# Altium schematic symbol library IC.SCHLIB: 145 symbols
Pins are listed as number, name and electrical type; pins without a type are passive.

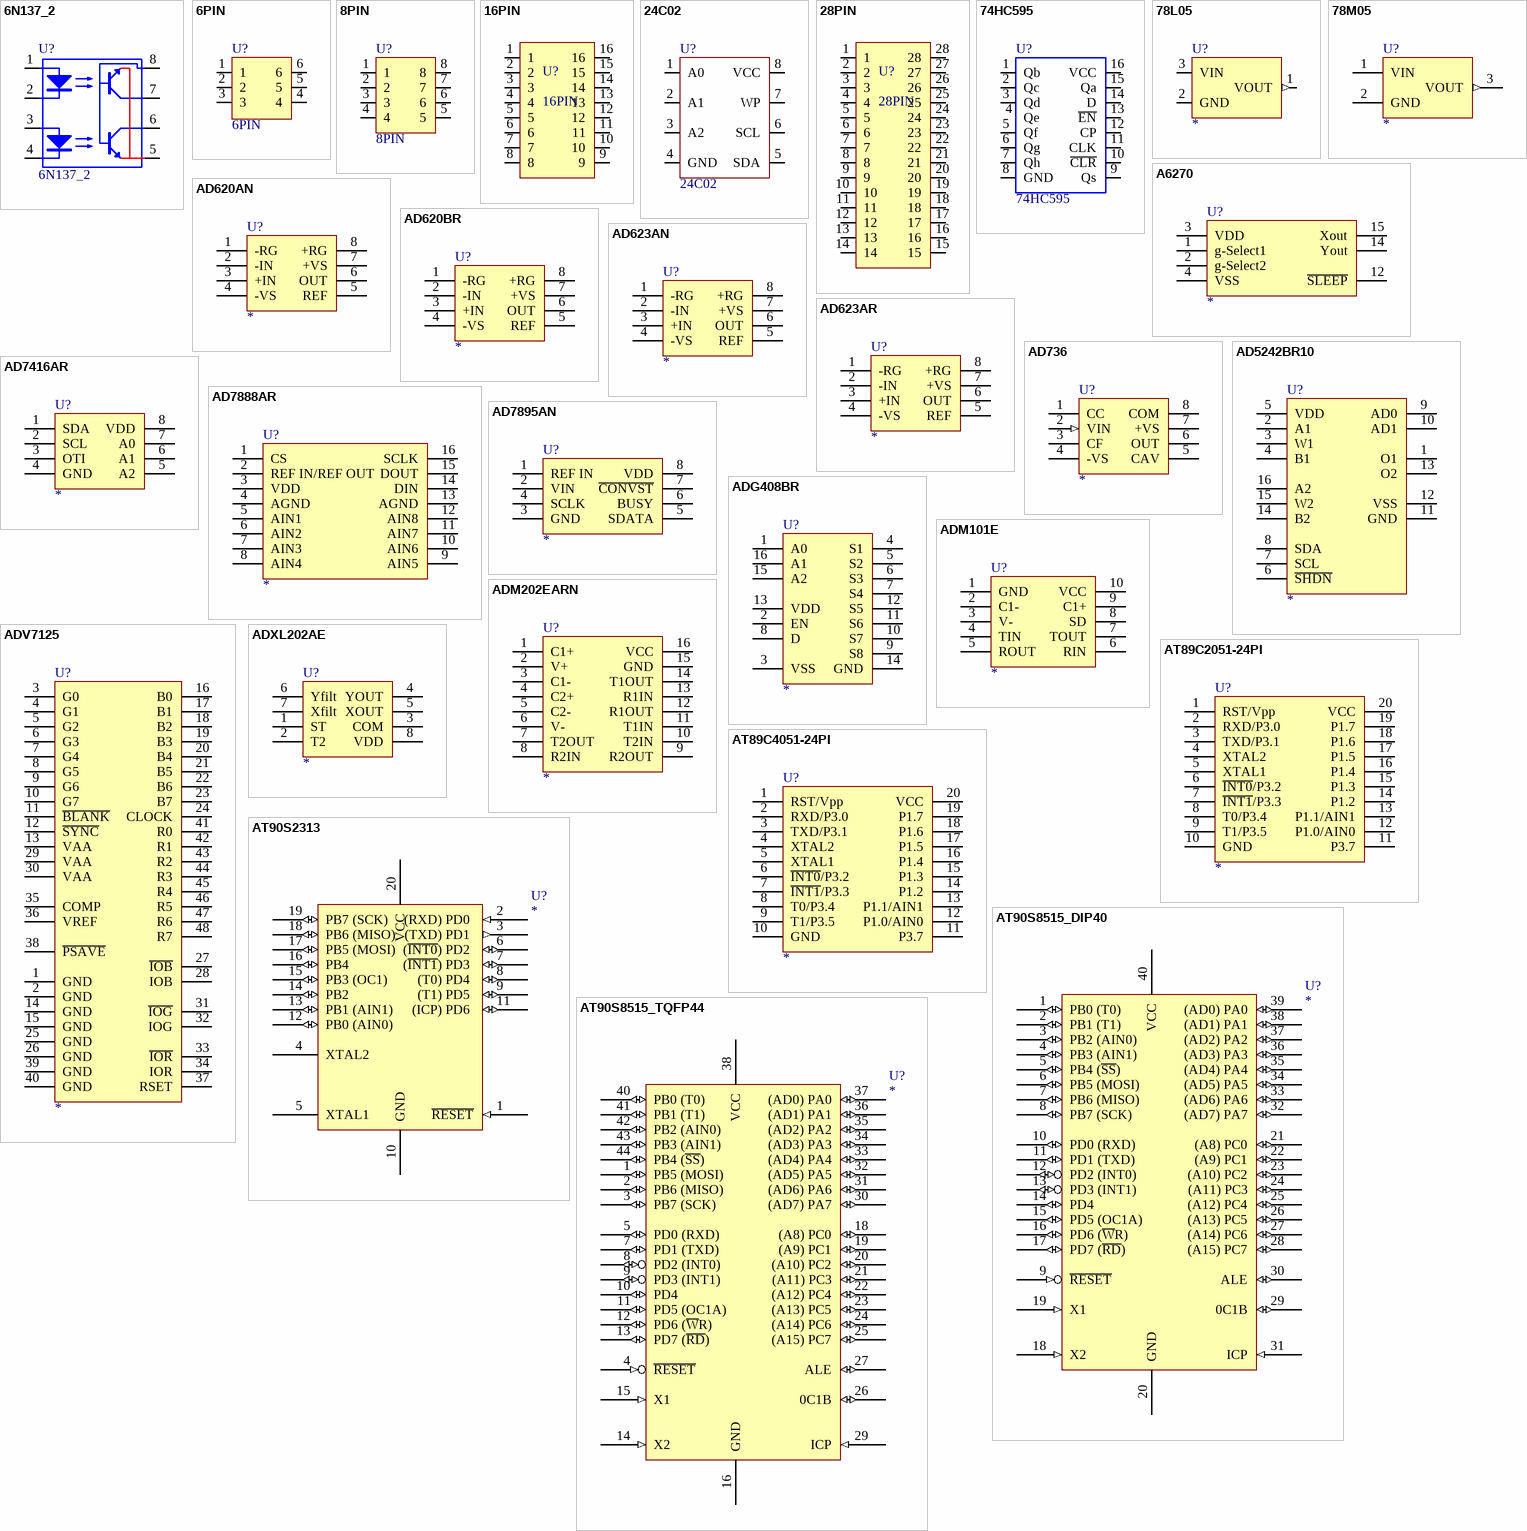
[diagram p0: symbols 6N137_2 to AT90S8515_TQFP44]

## 6N137_2
designator U?
Opto Isolator
footprint 6N137
pins: 1 LED Anode, 2 LED Cathode, 3 -, 4 +, 5 GND, 6 V02, 7 V01, 8 VCC

## 6PIN
designator U?
pins: 1, 2, 3, 4, 5, 6

## 8PIN
designator U?
pins: 1, 2, 3, 4, 5, 6, 7, 8

## 16PIN
designator U?
footprint SSOP-16
footprint SO-16N
footprint DIP-16N
pins: 1, 2, 3, 4, 5, 6, 7, 8, 9, 10, 11, 12, 13, 14, 15, 16

## 24C02
designator U?
footprint SO-8
pins: 1 A0, 2 A1, 3 A2, 4 GND, 5 SDA, 6 SCL, 7 WP, 8 VCC

## 28PIN
designator U?
footprint DIP-28W
footprint PDIUSBD12
footprint SO-28N (Footprint not found)
pins: 1, 2, 3, 4, 5, 6, 7, 8, 9, 10, 11, 12, 13, 14, 15, 16, 17, 18, 19, 20, 21, 22, 23, 24, 25, 26, 27, 28

## 74HC595
designator U?
footprint SO-16
pins: 1 Qb, 2 Qc, 3 Qd, 4 Qe, 5 Qf, 6 Qg, 7 Qh, 8 GND, 9 Qs, 10 ~{CLR}, 11 CLK, 12 CP, 13 ~{EN}, 14 D, 15 Qa, 16 VCC

## 78L05
designator U?
CI-78L05
footprint TO-92
pins: 1 VOUT (out), 2 GND (power), 3 VIN (power)

## 78M05
designator U?
CI-78M05
footprint DPAK
pins: 1 VIN (power), 2 GND (power), 3 VOUT (out)

## A6270
designator U?
pins: 1 g-Select1, 2 g-Select2, 3 VDD, 4 VSS, 12 ~{SLEEP}, 14 Yout, 15 Xout

## AD620AN
designator U?
CI-AD620AN
footprint DIP-8N
pins: 1 -RG, 2 -IN, 3 +IN, 4 -VS, 5 REF, 6 OUT, 7 +VS, 8 +RG

## AD620BR
designator U?
CI-AD620BR
footprint SO-8N
pins: 1 -RG, 2 -IN, 3 +IN, 4 -VS, 5 REF, 6 OUT, 7 +VS, 8 +RG

## AD623AN
designator U?
CI-AD623AN
footprint DIP-8N
pins: 1 -RG, 2 -IN, 3 +IN, 4 -VS, 5 REF, 6 OUT, 7 +VS, 8 +RG

## AD623AR
designator U?
CI-AD623AR
footprint SO-8N
pins: 1 -RG, 2 -IN, 3 +IN, 4 -VS, 5 REF, 6 OUT, 7 +VS, 8 +RG

## AD736
designator U?
CI-AD736
footprint SO-8N
pins: 1 CC, 2 VIN (in), 3 CF, 4 -VS (power), 5 CAV, 6 OUT, 7 +VS (power), 8 COM

## AD5242BR10
designator U?
CI-AD5242BR10
footprint SO-16N
pins: 1 O1, 2 A1, 3 W1, 4 B1, 5 VDD (power), 6 ~{SHDN}, 7 SCL, 8 SDA, 9 AD0, 10 AD1, 11 GND (power), 12 VSS, 13 O2, 14 B2, 15 W2, 16 A2

## AD7416AR
designator U?
CI-AD7416AR
footprint SO-8N
pins: 1 SDA, 2 SCL, 3 OTI, 4 GND (power), 5 A2, 6 A1, 7 A0, 8 VDD (power)

## AD7888AR
designator U?
CI-AD7888AR
footprint SO-16N
pins: 1 CS, 2 REF IN/REF OUT, 3 VDD (power), 4 AGND, 5 AIN1, 6 AIN2, 7 AIN3, 8 AIN4, 9 AIN5, 10 AIN6, 11 AIN7, 12 AIN8, 13 AGND, 14 DIN, 15 DOUT, 16 SCLK

## AD7895AN
designator U?
CI-AD7895AN
footprint DIP-8N
pins: 1 REF IN, 2 VIN, 3 GND (power), 4 SCLK, 5 SDATA, 6 BUSY, 7 ~{CONVST}, 8 VDD (power)

## ADG408BR
designator U?
CI-ADG408BR
footprint SO-16N
pins: 1 A0, 2 EN, 3 VSS (power), 4 S1, 5 S2, 6 S3, 7 S4, 8 D, 9 S8, 10 S7, 11 S6, 12 S5, 13 VDD (power), 14 GND, 15 A2, 16 A1

## ADM101E
designator U?
CI-ADM101E
footprint RM-10
pins: 1 GND (power), 2 C1-, 3 V-, 4 TIN, 5 ROUT, 6 RIN, 7 TOUT, 8 SD, 9 C1+, 10 VCC (power)

## ADM202EARN
designator U?
CI-ADM202EARN
footprint SO-16N
pins: 1 C1+, 2 V+, 3 C1-, 4 C2+, 5 C2-, 6 V-, 7 T2OUT, 8 R2IN, 9 R2OUT, 10 T2IN, 11 T1IN, 12 R1OUT, 13 R1IN, 14 T1OUT, 15 GND (power), 16 VCC (power)

## ADV7125
designator U?
pins: 1 GND, 2 GND, 3 G0, 4 G1, 5 G2, 6 G3, 7 G4, 8 G5, 9 G6, 10 G7, 11 ~{BLANK}, 12 ~{SYNC}, 13 VAA, 14 GND, 15 GND, 16 B0, 17 B1, 18 B2, 19 B3, 20 B4, 21 B5, 22 B6, 23 B7, 24 CLOCK, 25 GND, 26 GND, 27 ~{IOB}, 28 IOB, 29 VAA, 30 VAA, 31 ~{IOG}, 32 IOG, 33 ~{IOR}, 34 IOR, 35 COMP, 36 VREF, 37 RSET, 38 ~{PSAVE}, 39 GND, 40 GND, 41 R0, 42 R1, 43 R2, 44 R3, 45 R4, 46 R5, 47 R6, 48 R7

## ADXL202AE
designator U?
CI-ADXL202AE
footprint LCC-8
pins: 1 ST, 2 T2, 3 COM, 4 YOUT, 5 XOUT, 6 Yfilt (power), 7 Xfilt (power), 8 VDD (power)

## AT89C2051-24PI
designator U?
CI-AT89C2051-24PI
footprint DIP-20N
pins: 1 RST/Vpp, 2 RXD/P3.0, 3 TXD/P3.1, 4 XTAL2, 5 XTAL1, 6 ~{INT0}/P3.2, 7 ~{INT1}/P3.3, 8 T0/P3.4, 9 T1/P3.5, 10 GND, 11 P3.7, 12 P1.0/AIN0, 13 P1.1/AIN1, 14 P1.2, 15 P1.3, 16 P1.4, 17 P1.5, 18 P1.6, 19 P1.7, 20 VCC

## AT89C4051-24PI
designator U?
CI-AT89C4051-24PI
footprint DIP-20N
pins: 1 RST/Vpp, 2 RXD/P3.0, 3 TXD/P3.1, 4 XTAL2, 5 XTAL1, 6 ~{INT0}/P3.2, 7 ~{INT1}/P3.3, 8 T0/P3.4, 9 T1/P3.5, 10 GND (power), 11 P3.7, 12 P1.0/AIN0, 13 P1.1/AIN1, 14 P1.2, 15 P1.3, 16 P1.4, 17 P1.5, 18 P1.6, 19 P1.7, 20 VCC (power)

## AT90S2313
designator U?
Atmel Microcontroller - Library created by carel..  <www.mpfreezone.com>
footprint SO-20
footprint DIP-20
pins: 1 ~{RESET} (in), 2 (RXD) PD0  (in), 3 (TXD) PD1  (out), 4 XTAL2, 5 XTAL1, 6 (~{INT0}) PD2  (io), 7 (~{INT1}) PD3  (io), 8 (T0) PD4  (io), 9 (T1) PD5  (io), 10 GND (power), 11 (ICP) PD6  (io), 12 PB0 (AIN0)  (io), 13 PB1 (AIN1)  (io), 14 PB2 (io), 15 PB3 (OC1)  (io), 16 PB4 (io), 17 PB5 (MOSI)  (io), 18 PB6 (MISO)  (io), 19 PB7 (SCK) (io), 20 VCC (power)

## AT90S8515_DIP40
designator U?
Atmel Microcontroller - Library created by carel..  <www.mpfreezone.com>
footprint DIP-40
pins: 1 PB0 (T0) (io), 2 PB1 (T1) (io), 3 PB2 (AIN0) (io), 4 PB3 (AIN1) (io), 5 PB4 (~{SS}) (io), 6 PB5 (MOSI) (io), 7 PB6 (MISO) (io), 8 PB7 (SCK) (io), 9 ~{RESET} (in), 10 PD0 (RXD) (io), 11 PD1 (TXD) (io), 12 PD2 (INT0) (io), 13 PD3 (INT1) (io), 14 PD4 (io), 15 PD5 (OC1A) (io), 16 PD6 (~{W}R) (io), 17 PD7 (~{RD}) (io), 18 X2 (in), 19 X1 (in), 20 GND (power), 21 (A8) PC0 (io), 22 (A9) PC1 (io), 23 (A10) PC2 (io), 24 (A11) PC3 (io), 25 (A12) PC4 (io), 26 (A13) PC5 (io), 27 (A14) PC6 (io), 28 (A15) PC7 (io), 29 0C1B (io), 30 ALE (io), 31 ICP (in), 32 (AD7) PA7 (io), 33 (AD6) PA6 (io), 34 (AD5) PA5 (io), 35 (AD4) PA4 (io), 36 (AD3) PA3 (io), 37 (AD2) PA2 (io), 38 (AD1) PA1 (io), 39 (AD0) PA0 (io), 40 VCC (power)

## AT90S8515_TQFP44
designator U?
Atmel Microcontroller - Library created by carel..  <www.mpfreezone.com>
footprint TQFP-44
pins: 1 PB5 (MOSI) (io), 2 PB6 (MISO) (io), 3 PB7 (SCK) (io), 4 ~{RESET} (in), 5 PD0 (RXD) (io), 7 PD1 (TXD) (io), 8 PD2 (INT0) (io), 9 PD3 (INT1) (io), 10 PD4 (io), 11 PD5 (OC1A) (io), 12 PD6 (~{W}R) (io), 13 PD7 (~{RD}) (io), 14 X2 (in), 15 X1 (in), 16 GND (power), 18 (A8) PC0 (io), 19 (A9) PC1 (io), 20 (A10) PC2 (io), 21 (A11) PC3 (io), 22 (A12) PC4 (io), 23 (A13) PC5 (io), 24 (A14) PC6 (io), 25 (A15) PC7 (io), 26 0C1B (io), 27 ALE (io), 29 ICP (in), 30 (AD7) PA7 (io), 31 (AD6) PA6 (io), 32 (AD5) PA5 (io), 33 (AD4) PA4 (io), 34 (AD3) PA3 (io), 35 (AD2) PA2 (io), 36 (AD1) PA1 (io), 37 (AD0) PA0 (io), 38 VCC (power), 40 PB0 (T0) (io), 41 PB1 (T1) (io), 42 PB2 (AIN0) (io), 43 PB3 (AIN1) (io), 44 PB4 (~{SS}) (io)

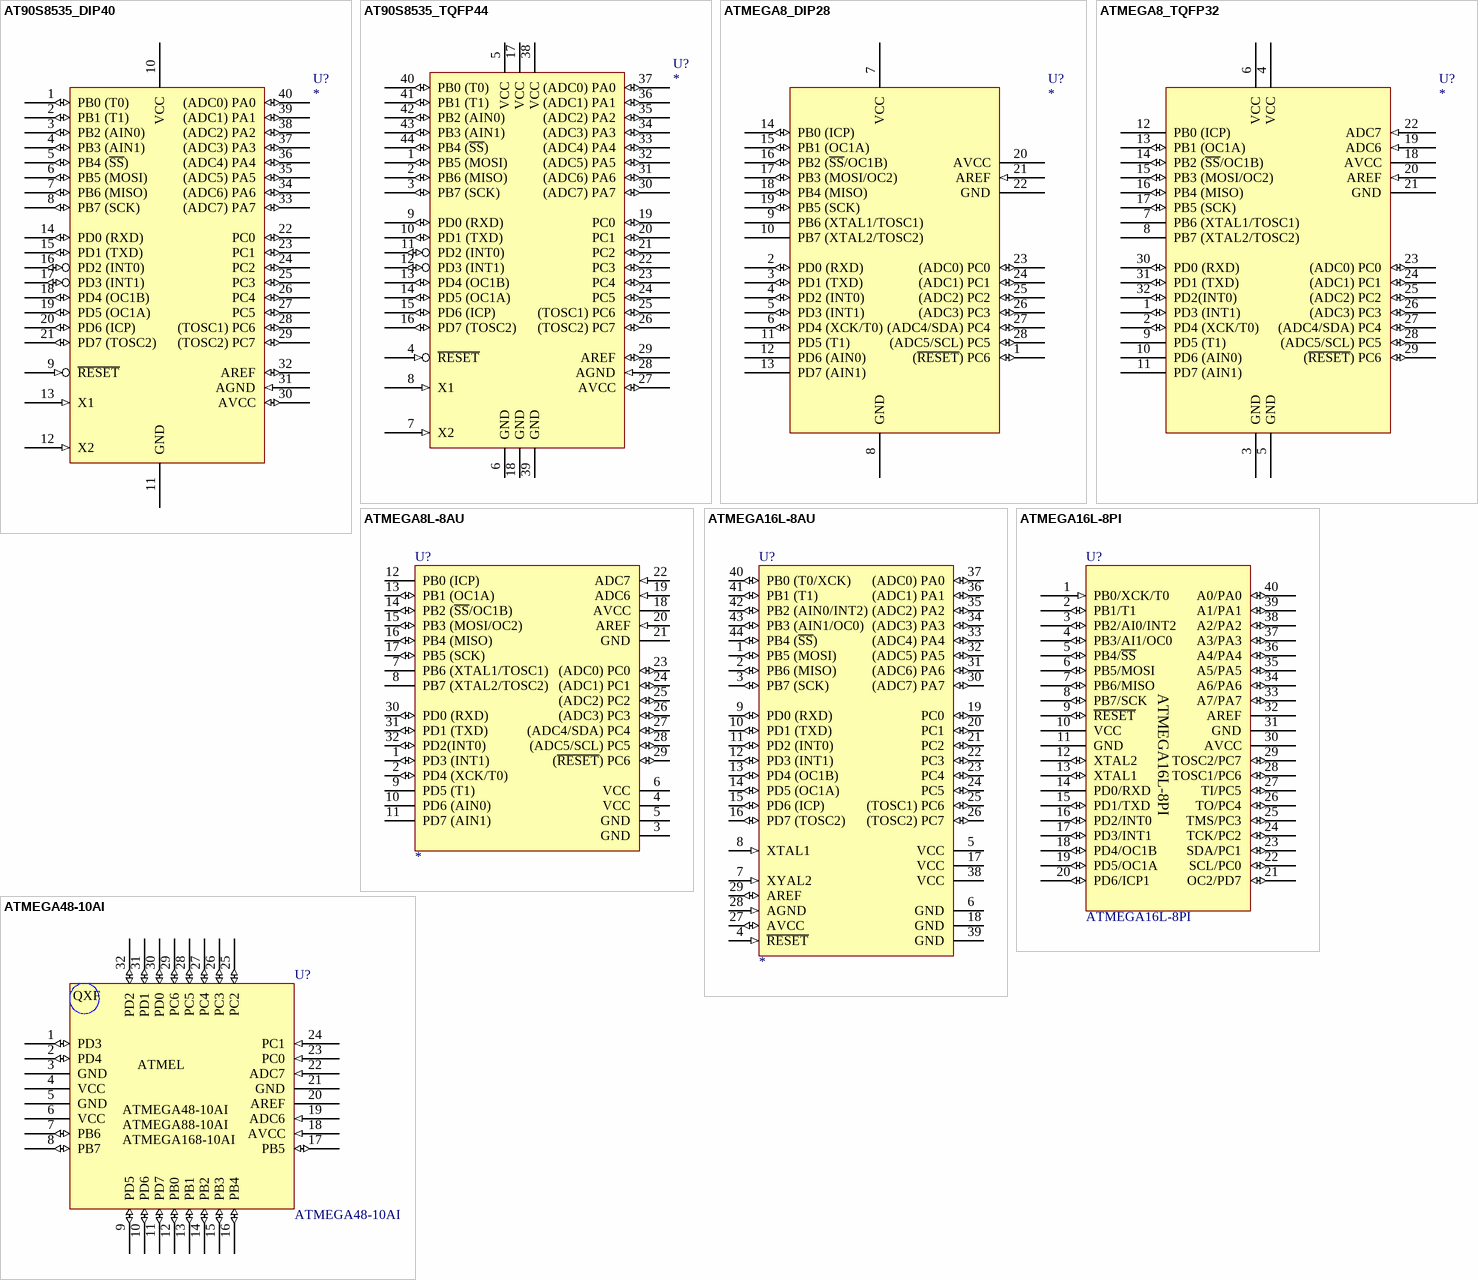
[diagram p1: symbols AT90S8535_DIP40 to ATMEGA48-10AI]

## AT90S8535_DIP40
designator U?
Atmel Microcontroller - Library created by carel..  <www.mpfreezone.com>
footprint DIP-40
pins: 1 PB0 (T0) (io), 2 PB1 (T1) (io), 3 PB2 (AIN0) (io), 4 PB3 (AIN1) (io), 5 PB4 (~{SS}) (io), 6 PB5 (MOSI) (io), 7 PB6 (MISO) (io), 8 PB7 (SCK) (io), 9 ~{RESET} (in), 10 VCC (power), 11 GND (power), 12 X2 (in), 13 X1 (in), 14 PD0 (RXD) (io), 15 PD1 (TXD) (io), 16 PD2 (INT0) (io), 17 PD3 (INT1) (io), 18 PD4 (OC1B) (io), 19 PD5 (OC1A) (io), 20 PD6 (ICP) (io), 21 PD7 (TOSC2) (io), 22 PC0 (io), 23 PC1 (io), 24 PC2 (io), 25 PC3 (io), 26 PC4 (io), 27 PC5 (io), 28 (TOSC1) PC6 (io), 29 (TOSC2) PC7 (io), 30 AVCC (io), 31 AGND (in), 32 AREF (io), 33 (ADC7) PA7 (io), 34 (ADC6) PA6 (io), 35 (ADC5) PA5 (io), 36 (ADC4) PA4 (io), 37 (ADC3) PA3 (io), 38 (ADC2) PA2 (io), 39 (ADC1) PA1 (io), 40 (ADC0) PA0 (io)

## AT90S8535_TQFP44
designator U?
Atmel Microcontroller - Library created by carel..  <www.mpfreezone.com>
footprint TQFP-44
pins: 1 PB5 (MOSI) (io), 2 PB6 (MISO) (io), 3 PB7 (SCK) (io), 4 ~{RESET} (in), 5 VCC, 6 GND, 7 X2 (in), 8 X1 (in), 9 PD0 (RXD) (io), 10 PD1 (TXD) (io), 11 PD2 (INT0) (io), 12 PD3 (INT1) (io), 13 PD4 (OC1B) (io), 14 PD5 (OC1A) (io), 15 PD6 (ICP) (io), 16 PD7 (TOSC2) (io), 17 VCC, 18 GND, 19 PC0 (io), 20 PC1 (io), 21 PC2 (io), 22 PC3 (io), 23 PC4 (io), 24 PC5 (io), 25 (TOSC1) PC6 (io), 26 (TOSC2) PC7 (io), 27 AVCC (io), 28 AGND (in), 29 AREF (io), 30 (ADC7) PA7 (io), 31 (ADC6) PA6 (io), 32 (ADC5) PA5 (io), 33 (ADC4) PA4 (io), 34 (ADC3) PA3 (io), 35 (ADC2) PA2 (io), 36 (ADC1) PA1 (io), 37 (ADC0) PA0 (io), 38 VCC (power), 39 GND (power), 40 PB0 (T0) (io), 41 PB1 (T1) (io), 42 PB2 (AIN0) (io), 43 PB3 (AIN1) (io), 44 PB4 (~{SS}) (io)

## ATMEGA8_DIP28
designator U?
Atmel Microcontroller - Library created by carel..  <www.mpfreezone.com>
footprint DIP-28
pins: 1 (~{RESET}) PC6 (io), 2 PD0 (RXD) (io), 3 PD1 (TXD) (io), 4 PD2 (INT0) (io), 5 PD3 (INT1) (io), 6 PD4 (XCK/T0) (io), 7 VCC, 8 GND, 9 PB6 (XTAL1/TOSC1), 10 PB7 (XTAL2/TOSC2), 11 PD5 (T1), 12 PD6 (AIN0), 13 PD7 (AIN1), 14 PB0 (ICP) (io), 15 PB1 (OC1A) (io), 16 PB2 (~{SS}/OC1B) (io), 17 PB3 (MOSI/OC2) (io), 18 PB4 (MISO) (io), 19 PB5 (SCK) (io), 20 AVCC, 21 AREF (in), 22 GND, 23 (ADC0) PC0 (io), 24 (ADC1) PC1 (io), 25 (ADC2) PC2 (io), 26 (ADC3) PC3 (io), 27 (ADC4/SDA) PC4 (io), 28 (ADC5/SCL) PC5 (io)

## ATMEGA8_TQFP32
designator U?
Atmel Microcontroller - Library created by carel..  <www.mpfreezone.com>
footprint DIP-28
pins: 1 PD3 (INT1) (io), 2 PD4 (XCK/T0) (io), 3 GND, 4 VCC (power), 5 GND (power), 6 VCC, 7 PB6 (XTAL1/TOSC1), 8 PB7 (XTAL2/TOSC2), 9 PD5 (T1), 10 PD6 (AIN0), 11 PD7 (AIN1), 12 PB0 (ICP), 13 PB1 (OC1A) (io), 14 PB2 (~{SS}/OC1B) (io), 15 PB3 (MOSI/OC2) (io), 16 PB4 (MISO) (io), 17 PB5 (SCK) (io), 18 AVCC, 19 ADC6 (in), 20 AREF (in), 21 GND, 22 ADC7 (in), 23 (ADC0) PC0 (io), 24 (ADC1) PC1 (io), 25 (ADC2) PC2 (io), 26 (ADC3) PC3 (io), 27 (ADC4/SDA) PC4 (io), 28 (ADC5/SCL) PC5 (io), 29 (~{RESET}) PC6 (io), 30 PD0 (RXD) (io), 31 PD1 (TXD) (io), 32 PD2(INT0) (io)

## ATMEGA8L-8AU
designator U?
CI-ATMEGA8L-8AU
footprint TQFP-32
pins: 1 PD3 (INT1) (io), 2 PD4 (XCK/T0) (io), 3 GND (power), 4 VCC (power), 5 GND (power), 6 VCC (power), 7 PB6 (XTAL1/TOSC1), 8 PB7 (XTAL2/TOSC2), 9 PD5 (T1), 10 PD6 (AIN0), 11 PD7 (AIN1), 12 PB0 (ICP), 13 PB1 (OC1A) (io), 14 PB2 (~{SS}/OC1B) (io), 15 PB3 (MOSI/OC2) (io), 16 PB4 (MISO) (io), 17 PB5 (SCK) (io), 18 AVCC, 19 ADC6 (in), 20 AREF (in), 21 GND, 22 ADC7 (in), 23 (ADC0) PC0 (io), 24 (ADC1) PC1 (io), 25 (ADC2) PC2 (io), 26 (ADC3) PC3 (io), 27 (ADC4/SDA) PC4 (io), 28 (ADC5/SCL) PC5 (io), 29 (~{RESET}) PC6 (io), 30 PD0 (RXD) (io), 31 PD1 (TXD) (io), 32 PD2(INT0) (io)

## ATMEGA16L-8AU
designator U?
CI-ATMEGA16L-8AU
footprint TQFP-44
pins: 1 PB5 (MOSI) (io), 2 PB6 (MISO) (io), 3 PB7 (SCK) (io), 4 ~{RESET} (in), 5 VCC (power), 6 GND (power), 7 XYAL2 (in), 8 XTAL1 (in), 9 PD0 (RXD) (io), 10 PD1 (TXD) (io), 11 PD2 (INT0) (io), 12 PD3 (INT1) (io), 13 PD4 (OC1B) (io), 14 PD5 (OC1A) (io), 15 PD6 (ICP) (io), 16 PD7 (TOSC2) (io), 17 VCC (power), 18 GND (power), 19 PC0 (io), 20 PC1 (io), 21 PC2 (io), 22 PC3 (io), 23 PC4 (io), 24 PC5 (io), 25 (TOSC1) PC6 (io), 26 (TOSC2) PC7 (io), 27 AVCC (io), 28 AGND (in), 29 AREF (io), 30 (ADC7) PA7 (io), 31 (ADC6) PA6 (io), 32 (ADC5) PA5 (io), 33 (ADC4) PA4 (io), 34 (ADC3) PA3 (io), 35 (ADC2) PA2 (io), 36 (ADC1) PA1 (io), 37 (ADC0) PA0 (io), 38 VCC (power), 39 GND (power), 40 PB0 (T0/XCK) (io), 41 PB1 (T1) (io), 42 PB2 (AIN0/INT2) (io), 43 PB3 (AIN1/OC0) (io), 44 PB4 (~{SS}) (io)

## ATMEGA16L-8PI
designator U?
footprint DIP-40
pins: 1 PB0/XCK/T0 (in), 2 PB1/T1 (io), 3 PB2/AI0/INT2 (io), 4 PB3/AI1/OC0 (io), 5 PB4/~{SS} (io), 6 PB5/MOSI (io), 7 PB6/MISO (io), 8 PB7/SCK (io), 9 ~{RESET} (io), 10 VCC (power), 11 GND (power), 12 XTAL2 (io), 13 XTAL1 (io), 14 PD0/RXD (power), 15 PD1/TXD (io), 16 PD2/INT0 (io), 17 PD3/INT1 (io), 18 PD4/OC1B (io), 19 PD5/OC1A (io), 20 PD6/ICP1 (io), 21 OC2/PD7 (io), 22 SCL/PC0 (io), 23 SDA/PC1 (io), 24 TCK/PC2 (io), 25 TMS/PC3 (io), 26 TO/PC4 (io), 27 TI/PC5 (io), 28 TOSC1/PC6 (io), 29 TOSC2/PC7 (io), 30 AVCC (power), 31 GND (power), 32 AREF (power), 33 A7/PA7 (io), 34 A6/PA6 (io), 35 A5/PA5 (io), 36 A4/PA4 (io), 37 A3/PA3 (io), 38 A2/PA2 (io), 39 A1/PA1 (io), 40 A0/PA0 (io)

## ATMEGA48-10AI
designator U?
footprint TQFP-32
pins: 1 PD3 (io), 2 PD4 (io), 3 GND (power), 4 VCC (power), 5 GND (power), 6 VCC (power), 7 PB6 (io), 8 PB7 (io), 9 PD5 (io), 10 PD6 (io), 11 PD7 (io), 12 PB0 (io), 13 PB1 (io), 14 PB2 (io), 15 PB3 (io), 16 PB4 (io), 17 PB5 (io), 18 AVCC (in), 19 ADC6 (in), 20 AREF, 21 GND (power), 22 ADC7 (in), 23 PC0 (in), 24 PC1 (in), 25 PC2 (io), 26 PC3 (io), 27 PC4 (io), 28 PC5 (io), 29 PC6 (io), 30 PD0 (io), 31 PD1 (io), 32 PD2 (io)
text: QXF; ATMEL; ATMEGA88-10AI; ATMEGA168-10AI

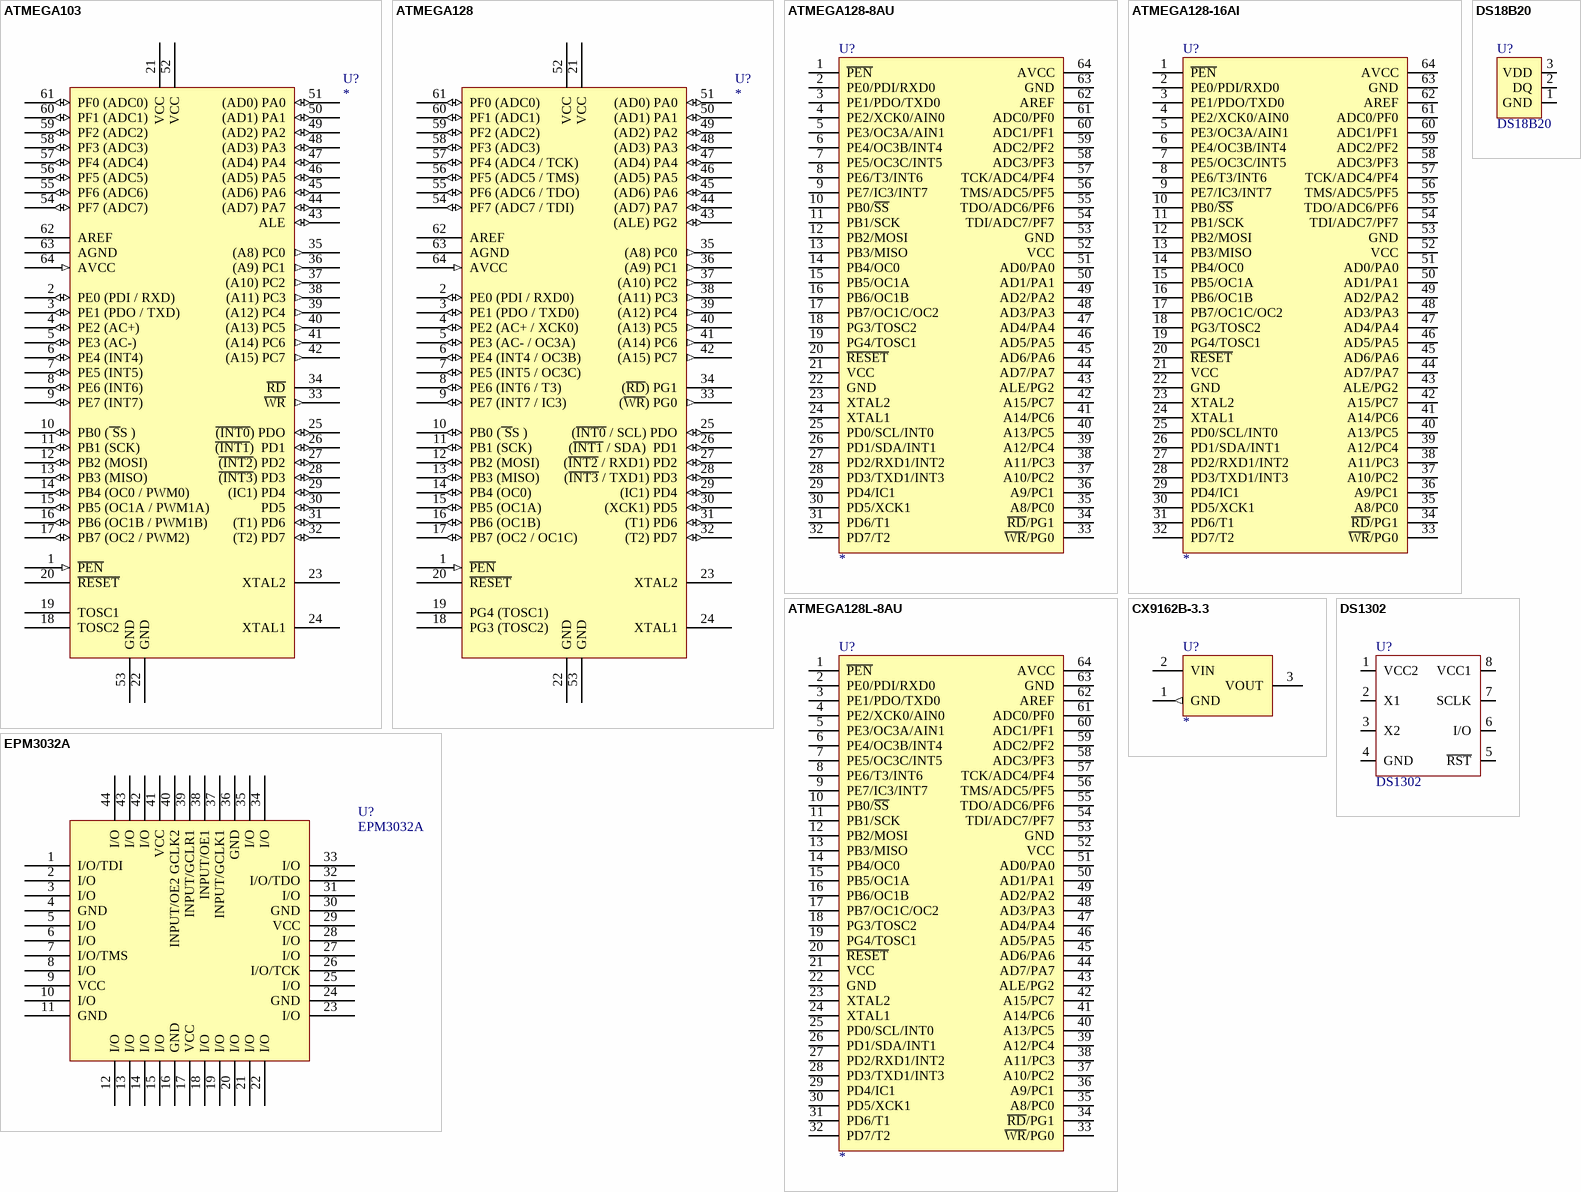
[diagram p2: symbols ATMEGA103 to EPM3032A]

## ATMEGA103
designator U?
Atmel Microcontroller - Library created by carel..  <www.mpfreezone.com>
footprint TQFP-64
pins: 1 ~{PEN} (in), 2 PE0 (PDI / RXD) (io), 3 PE1 (PDO / TXD)  (io), 4 PE2 (AC+) (io), 5 PE3 (AC-) (io), 6 PE4 (INT4) (io), 7 PE5 (INT5) (io), 8 PE6 (INT6) (io), 9 PE7 (INT7) (io), 10 PB0 (~{ S}S ) (io), 11 PB1 (SCK) (io), 12 PB2 (MOSI) (io), 13 PB3 (MISO) (io), 14 PB4 (OC0 / PWM0) (io), 15 PB5 (OC1A / PWM1A) (io), 16 PB6 (OC1B / PWM1B) (io), 17 PB7 (OC2 / PWM2) (io), 18 TOSC2, 19 TOSC1, 20 ~{RESET}, 21 VCC (power), 22 GND (power), 23 XTAL2, 24 XTAL1, 25 ~{(INT0}) PDO (io), 26 ~{(INT1})  PD1 (io), 27 ~{(INT2}) PD2 (io), 28 ~{(INT3}) PD3 (io), 29 (IC1) PD4 (io), 30 PD5 (io), 31 (T1) PD6 (io), 32 (T2) PD7 (io), 33 ~{WR} (out), 34 ~{RD}, 35 (A8) PC0 (out), 36 (A9) PC1 (out), 37 (A10) PC2 (out), 38 (A11) PC3 (out), 39 (A12) PC4 (out), 40 (A13) PC5 (out), 41 (A14) PC6 (out), 42 (A15) PC7 (out), 43 ALE (io), 44 (AD7) PA7 (io), 45 (AD6) PA6 (io), 46 (AD5) PA5 (io), 47 (AD4) PA4 (io), 48 (AD3) PA3 (io), 49 (AD2) PA2 (io), 50 (AD1) PA1 (io), 51 (AD0) PA0 (io), 52 VCC (power), 53 GND (power), 54 PF7 (ADC7) (io), 55 PF6 (ADC6) (io), 56 PF5 (ADC5) (io), 57 PF4 (ADC4) (io), 58 PF3 (ADC3) (io), 59 PF2 (ADC2) (io), 60 PF1 (ADC1) (io), 61 PF0 (ADC0) (io), 62 AREF, 63 AGND, 64 AVCC (in)

## ATMEGA128
designator U?
Atmel Microcontroller - Library created by carel..  <www.mpfreezone.com>
footprint TQFP-64
pins: 1 ~{PEN} (in), 2 PE0 (PDI / RXD0) (io), 3 PE1 (PDO / TXD0)  (io), 4 PE2 (AC+ / XCK0) (io), 5 PE3 (AC- / OC3A) (io), 6 PE4 (INT4 / OC3B) (io), 7 PE5 (INT5 / OC3C) (io), 8 PE6 (INT6 / T3) (io), 9 PE7 (INT7 / IC3) (io), 10 PB0 (~{ S}S ) (io), 11 PB1 (SCK) (io), 12 PB2 (MOSI) (io), 13 PB3 (MISO) (io), 14 PB4 (OC0) (io), 15 PB5 (OC1A) (io), 16 PB6 (OC1B) (io), 17 PB7 (OC2 / OC1C) (io), 18 PG3 (TOSC2), 19 PG4 (TOSC1), 20 ~{RESET}, 21 VCC (power), 22 GND (power), 23 XTAL2, 24 XTAL1, 25 (~{INT0} / SCL) PDO (io), 26 (~{INT1} / SDA)  PD1 (io), 27 (~{INT2} / RXD1) PD2 (io), 28 (~{INT3} / TXD1) PD3 (io), 29 (IC1) PD4 (io), 30 (XCK1) PD5 (io), 31 (T1) PD6 (io), 32 (T2) PD7 (io), 33 (~{WR}) PG0 (out), 34 (~{RD}) PG1, 35 (A8) PC0 (out), 36 (A9) PC1 (out), 37 (A10) PC2 (out), 38 (A11) PC3 (out), 39 (A12) PC4 (out), 40 (A13) PC5 (out), 41 (A14) PC6 (out), 42 (A15) PC7 (out), 43 (ALE) PG2 (io), 44 (AD7) PA7 (io), 45 (AD6) PA6 (io), 46 (AD5) PA5 (io), 47 (AD4) PA4 (io), 48 (AD3) PA3 (io), 49 (AD2) PA2 (io), 50 (AD1) PA1 (io), 51 (AD0) PA0 (io), 52 VCC (power), 53 GND (power), 54 PF7 (ADC7 / TDI) (io), 55 PF6 (ADC6 / TDO) (io), 56 PF5 (ADC5 / TMS) (io), 57 PF4 (ADC4 / TCK) (io), 58 PF3 (ADC3) (io), 59 PF2 (ADC2) (io), 60 PF1 (ADC1) (io), 61 PF0 (ADC0) (io), 62 AREF, 63 AGND, 64 AVCC (in)

## ATMEGA128-8AU
designator U?
CI-ATMEGA128-8AU
footprint TQFP-64
pins: 1 ~{PEN}, 2 PE0/PDI/RXD0, 3 PE1/PDO/TXD0, 4 PE2/XCK0/AIN0, 5 PE3/OC3A/AIN1, 6 PE4/OC3B/INT4, 7 PE5/OC3C/INT5, 8 PE6/T3/INT6, 9 PE7/IC3/INT7, 10 PB0/~{SS}, 11 PB1/SCK, 12 PB2/MOSI, 13 PB3/MISO, 14 PB4/OC0, 15 PB5/OC1A, 16 PB6/OC1B, 17 PB7/OC1C/OC2, 18 PG3/TOSC2, 19 PG4/TOSC1, 20 ~{RESET}, 21 VCC (power), 22 GND (power), 23 XTAL2, 24 XTAL1, 25 PD0/SCL/INT0, 26 PD1/SDA/INT1, 27 PD2/RXD1/INT2, 28 PD3/TXD1/INT3, 29 PD4/IC1, 30 PD5/XCK1, 31 PD6/T1, 32 PD7/T2, 33 ~{WR}/PG0, 34 ~{RD}/PG1, 35 A8/PC0, 36 A9/PC1, 37 A10/PC2, 38 A11/PC3, 39 A12/PC4, 40 A13/PC5, 41 A14/PC6, 42 A15/PC7, 43 ALE/PG2, 44 AD7/PA7, 45 AD6/PA6, 46 AD5/PA5, 47 AD4/PA4, 48 AD3/PA3, 49 AD2/PA2, 50 AD1/PA1, 51 AD0/PA0, 52 VCC (power), 53 GND (power), 54 TDI/ADC7/PF7, 55 TDO/ADC6/PF6, 56 TMS/ADC5/PF5, 57 TCK/ADC4/PF4, 58 ADC3/PF3, 59 ADC2/PF2, 60 ADC1/PF1, 61 ADC0/PF0, 62 AREF, 63 GND (power), 64 AVCC (power)

## ATMEGA128-16AI
designator U?
CI-ATMEGA128-16AI
footprint TQFP-64
pins: 1 ~{PEN}, 2 PE0/PDI/RXD0, 3 PE1/PDO/TXD0, 4 PE2/XCK0/AIN0, 5 PE3/OC3A/AIN1, 6 PE4/OC3B/INT4, 7 PE5/OC3C/INT5, 8 PE6/T3/INT6, 9 PE7/IC3/INT7, 10 PB0/~{SS}, 11 PB1/SCK, 12 PB2/MOSI, 13 PB3/MISO, 14 PB4/OC0, 15 PB5/OC1A, 16 PB6/OC1B, 17 PB7/OC1C/OC2, 18 PG3/TOSC2, 19 PG4/TOSC1, 20 ~{RESET}, 21 VCC (power), 22 GND (power), 23 XTAL2, 24 XTAL1, 25 PD0/SCL/INT0, 26 PD1/SDA/INT1, 27 PD2/RXD1/INT2, 28 PD3/TXD1/INT3, 29 PD4/IC1, 30 PD5/XCK1, 31 PD6/T1, 32 PD7/T2, 33 ~{WR}/PG0, 34 ~{RD}/PG1, 35 A8/PC0, 36 A9/PC1, 37 A10/PC2, 38 A11/PC3, 39 A12/PC4, 40 A13/PC5, 41 A14/PC6, 42 A15/PC7, 43 ALE/PG2, 44 AD7/PA7, 45 AD6/PA6, 46 AD5/PA5, 47 AD4/PA4, 48 AD3/PA3, 49 AD2/PA2, 50 AD1/PA1, 51 AD0/PA0, 52 VCC (power), 53 GND (power), 54 TDI/ADC7/PF7, 55 TDO/ADC6/PF6, 56 TMS/ADC5/PF5, 57 TCK/ADC4/PF4, 58 ADC3/PF3, 59 ADC2/PF2, 60 ADC1/PF1, 61 ADC0/PF0, 62 AREF, 63 GND (power), 64 AVCC (power)

## ATMEGA128L-8AU
designator U?
CI-ATMEGA128L-8AU
footprint TQFP-64
pins: 1 ~{PEN}, 2 PE0/PDI/RXD0, 3 PE1/PDO/TXD0, 4 PE2/XCK0/AIN0, 5 PE3/OC3A/AIN1, 6 PE4/OC3B/INT4, 7 PE5/OC3C/INT5, 8 PE6/T3/INT6, 9 PE7/IC3/INT7, 10 PB0/~{SS}, 11 PB1/SCK, 12 PB2/MOSI, 13 PB3/MISO, 14 PB4/OC0, 15 PB5/OC1A, 16 PB6/OC1B, 17 PB7/OC1C/OC2, 18 PG3/TOSC2, 19 PG4/TOSC1, 20 ~{RESET}, 21 VCC (power), 22 GND (power), 23 XTAL2, 24 XTAL1, 25 PD0/SCL/INT0, 26 PD1/SDA/INT1, 27 PD2/RXD1/INT2, 28 PD3/TXD1/INT3, 29 PD4/IC1, 30 PD5/XCK1, 31 PD6/T1, 32 PD7/T2, 33 ~{WR}/PG0, 34 ~{RD}/PG1, 35 A8/PC0, 36 A9/PC1, 37 A10/PC2, 38 A11/PC3, 39 A12/PC4, 40 A13/PC5, 41 A14/PC6, 42 A15/PC7, 43 ALE/PG2, 44 AD7/PA7, 45 AD6/PA6, 46 AD5/PA5, 47 AD4/PA4, 48 AD3/PA3, 49 AD2/PA2, 50 AD1/PA1, 51 AD0/PA0, 52 VCC (power), 53 GND (power), 54 TDI/ADC7/PF7, 55 TDO/ADC6/PF6, 56 TMS/ADC5/PF5, 57 TCK/ADC4/PF4, 58 ADC3/PF3, 59 ADC2/PF2, 60 ADC1/PF1, 61 ADC0/PF0, 62 AREF, 63 GND (power), 64 AVCC (power)

## CX9162B-3.3
designator U?
CX9162B-3.3
footprint TO-92
pins: 1 GND (out), 2 VIN (power), 3 VOUT (power)

## DS18B20
designator U?
pins: 1 GND, 2 DQ, 3 VDD

## DS1302
designator U?
footprint SO-8N
pins: 1 VCC2, 2 X1, 3 X2, 4 GND, 5 ~{RST}, 6 I/O, 7 SCLK, 8 VCC1

## EPM3032A
designator U?
footprint TQFP-44
pins: 1 I/O/TDI, 2 I/O, 3 I/O, 4 GND, 5 I/O, 6 I/O, 7 I/O/TMS, 8 I/O, 9 VCC, 10 I/O, 11 GND, 12 I/O, 13 I/O, 14 I/O, 15 I/O, 16 GND, 17 VCC, 18 I/O, 19 I/O, 20 I/O, 21 I/O, 22 I/O, 23 I/O, 24 GND, 25 I/O, 26 I/O/TCK, 27 I/O, 28 I/O, 29 VCC, 30 GND, 31 I/O, 32 I/O/TDO, 33 I/O, 34 I/O, 35 I/O, 36 GND, 37 INPUT/GCLK1, 38 INPUT/OE1, 39 INPUT/GCLR1, 40 INPUT/OE2 GCLK2, 41 VCC, 42 I/O, 43 I/O, 44 I/O

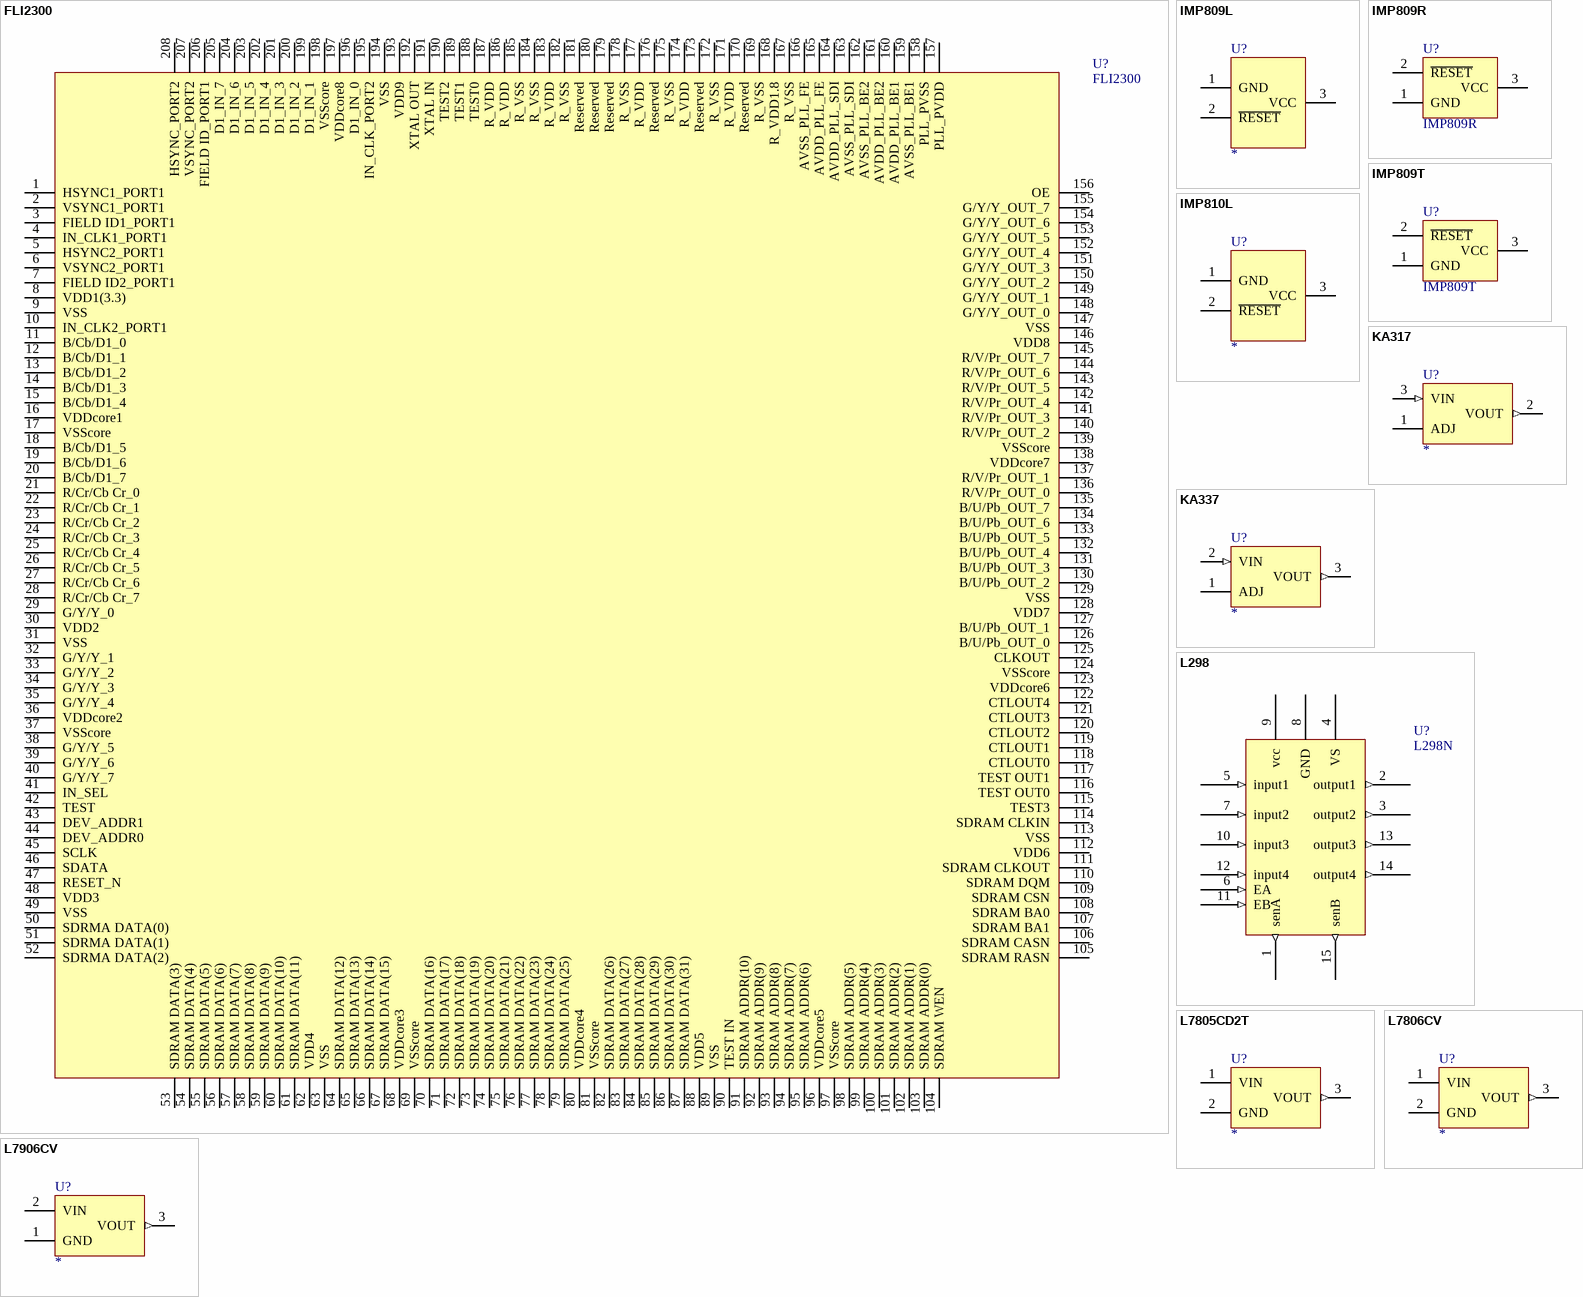
[diagram p3: symbols FLI2300 to L7906CV]

## FLI2300
designator U?
pins: 1 HSYNC1_PORT1, 2 VSYNC1_PORT1, 3 FIELD ID1_PORT1, 4 IN_CLK1_PORT1, 5 HSYNC2_PORT1, 6 VSYNC2_PORT1, 7 FIELD ID2_PORT1, 8 VDD1(3.3), 9 VSS, 10 IN_CLK2_PORT1, 11 B/Cb/D1_0, 12 B/Cb/D1_1, 13 B/Cb/D1_2, 14 B/Cb/D1_3, 15 B/Cb/D1_4, 16 VDDcore1, 17 VSScore, 18 B/Cb/D1_5, 19 B/Cb/D1_6, 20 B/Cb/D1_7, 21 R/Cr/Cb Cr_0, 22 R/Cr/Cb Cr_1, 23 R/Cr/Cb Cr_2, 24 R/Cr/Cb Cr_3, 25 R/Cr/Cb Cr_4, 26 R/Cr/Cb Cr_5, 27 R/Cr/Cb Cr_6, 28 R/Cr/Cb Cr_7, 29 G/Y/Y_0, 30 VDD2, 31 VSS, 32 G/Y/Y_1, 33 G/Y/Y_2, 34 G/Y/Y_3, 35 G/Y/Y_4, 36 VDDcore2, 37 VSScore, 38 G/Y/Y_5, 39 G/Y/Y_6, 40 G/Y/Y_7, 41 IN_SEL, 42 TEST, 43 DEV_ADDR1, 44 DEV_ADDR0, 45 SCLK, 46 SDATA, 47 RESET_N, 48 VDD3, 49 VSS, 50 SDRMA DATA(0), 51 SDRMA DATA(1), 52 SDRMA DATA(2), 53 SDRAM DATA(3), 54 SDRAM DATA(4), 55 SDRAM DATA(5), 56 SDRAM DATA(6), 57 SDRAM DATA(7), 58 SDRAM DATA(8), 59 SDRAM DATA(9), 60 SDRAM DATA(10), 61 SDRAM DATA(11), 62 VDD4, 63 VSS, 64 SDRAM DATA(12), 65 SDRAM DATA(13), 66 SDRAM DATA(14), 67 SDRAM DATA(15), 68 VDDcore3, 69 VSScore, 70 SDRAM DATA(16), 71 SDRAM DATA(17), 72 SDRAM DATA(18), 73 SDRAM DATA(19), 74 SDRAM DATA(20), 75 SDRAM DATA(21), 76 SDRAM DATA(22), 77 SDRAM DATA(23), 78 SDRAM DATA(24), 79 SDRAM DATA(25), 80 VDDcore4, 81 VSScore, 82 SDRAM DATA(26), 83 SDRAM DATA(27), 84 SDRAM DATA(28), 85 SDRAM DATA(29), 86 SDRAM DATA(30), 87 SDRAM DATA(31), 88 VDD5, 89 VSS, 90 TEST IN, 91 SDRAM ADDR(10), 92 SDRAM ADDR(9), 93 SDRAM ADDR(8), 94 SDRAM ADDR(7), 95 SDRAM ADDR(6), 96 VDDcore5, 97 VSScore, 98 SDRAM ADDR(5), 99 SDRAM ADDR(4), 100 SDRAM ADDR(3), 101 SDRAM ADDR(2), 102 SDRAM ADDR(1), 103 SDRAM ADDR(0), 104 SDRAM WEN, 105 SDRAM RASN, 106 SDRAM CASN, 107 SDRAM BA1, 108 SDRAM BA0, 109 SDRAM CSN, 110 SDRAM DQM, 111 SDRAM CLKOUT, 112 VDD6, 113 VSS, 114 SDRAM CLKIN, 115 TEST3, 116 TEST OUT0, 117 TEST OUT1, 118 CTLOUT0, 119 CTLOUT1, 120 CTLOUT2, 121 CTLOUT3, 122 CTLOUT4, 123 VDDcore6, 124 VSScore, 125 CLKOUT, 126 B/U/Pb_OUT_0, 127 B/U/Pb_OUT_1, 128 VDD7, 129 VSS, 130 B/U/Pb_OUT_2, 131 B/U/Pb_OUT_3, 132 B/U/Pb_OUT_4, 133 B/U/Pb_OUT_5, 134 B/U/Pb_OUT_6, 135 B/U/Pb_OUT_7, 136 R/V/Pr_OUT_0, 137 R/V/Pr_OUT_1, 138 VDDcore7, 139 VSScore, 140 R/V/Pr_OUT_2, 141 R/V/Pr_OUT_3, 142 R/V/Pr_OUT_4, 143 R/V/Pr_OUT_5, 144 R/V/Pr_OUT_6, 145 R/V/Pr_OUT_7, 146 VDD8, 147 VSS, 148 G/Y/Y_OUT_0, 149 G/Y/Y_OUT_1, 150 G/Y/Y_OUT_2, 151 G/Y/Y_OUT_3, 152 G/Y/Y_OUT_4, 153 G/Y/Y_OUT_5, 154 G/Y/Y_OUT_6, 155 G/Y/Y_OUT_7, 156 OE, 157 PLL_PVDD, 158 PLL_PVSS, 159 AVSS_PLL_BE1, 160 AVDD_PLL_BE1, 161 AVDD_PLL_BE2, 162 AVSS_PLL_BE2, 163 AVSS_PLL_SDI, 164 AVDD_PLL_SDI, 165 AVDD_PLL_FE, 166 AVSS_PLL_FE, 167 R_VSS, 168 R_VDD1.8, 169 R_VSS, 170 Reserved, 171 R_VDD, 172 R_VSS, 173 Reserved, 174 R_VDD, 175 R_VSS, 176 Reserved, 177 R_VDD, 178 R_VSS, 179 Reserved, 180 Reserved, 181 Reserved, 182 R_VSS, 183 R_VDD, 184 R_VSS, 185 R_VSS, 186 R_VDD, 187 R_VDD, 188 TEST0, 189 TEST1, 190 TEST2, 191 XTAL IN, 192 XTAL OUT, 193 VDD9, 194 VSS, 195 IN_CLK_PORT2, 196 D1_IN_0, 197 VDDcore8, 198 VSScore, 199 D1_IN_1, 200 D1_IN_2, 201 D1_IN_3, 202 D1_IN_4, 203 D1_IN_5, 204 D1_IN_6, 205 D1_IN_7, 206 FIELD ID_PORT1, 207 VSYNC_PORT2, 208 HSYNC_PORT2

## IMP809L
designator U?
CI-IMP809L
footprint SOT-23
pins: 1 GND (power), 2 ~{RESET}, 3 VCC (power)

## IMP809R
designator U?
IC; Set Position: 0.5; Published: 8-Jun-2000; LatestRevisionDate: 17-Jul-2002; LatestRevisionNote: Re-released for DXP Platform.; PackageReference: AXIAL-0.6; Publisher: Altium Limited
footprint AXIAL-0.6 (Variable Resistor; 2 Leads)
simulation model VRES (Variable Resistor)
signal-integrity model Res Adj
pins: 1 GND, 2 ~{RESET}, 3 VCC

## IMP809T
designator U?
IC; Set Position: 0.5; Published: 8-Jun-2000; LatestRevisionDate: 17-Jul-2002; LatestRevisionNote: Re-released for DXP Platform.; PackageReference: AXIAL-0.6; Publisher: Altium Limited
footprint AXIAL-0.6 (Variable Resistor; 2 Leads)
simulation model VRES (Variable Resistor)
signal-integrity model Res Adj
pins: 1 GND, 2 ~{RESET}, 3 VCC

## IMP810L
designator U?
CI-IMP810L
footprint SOT-23
pins: 1 GND (power), 2 ~{RESET}, 3 VCC (power)

## KA317
designator U?
CI-KA317
footprint TO-220
pins: 1 ADJ, 2 VOUT (out), 3 VIN (in)

## KA337
designator U?
CI-KA337
footprint TO-220
pins: 1 ADJ, 2 VIN (in), 3 VOUT (out)

## L298
designator U?, comment L298N
footprint Multiwatt15H (L298)
pins: 1 senA (out), 2 output1 (out), 3 output2 (out), 4 VS (power), 5 input1 (in), 6 EA (in), 7 input2 (in), 8 GND (power), 9 vcc (power), 10 input3 (in), 11 EB (in), 12 input4 (in), 13 output3 (out), 14 output4 (out), 15 senB (out)

## L7805CD2T
designator U?
CI-L7805CD2T
footprint D2PAK
pins: 1 VIN (power), 2 GND (power), 3 VOUT (out)

## L7806CV
designator U?
CI-L7806CV
footprint TO-220
pins: 1 VIN (power), 2 GND (power), 3 VOUT (out)

## L7906CV
designator U?
CI-L7906CV
footprint TO-220
pins: 1 GND (power), 2 VIN (power), 3 VOUT (out)

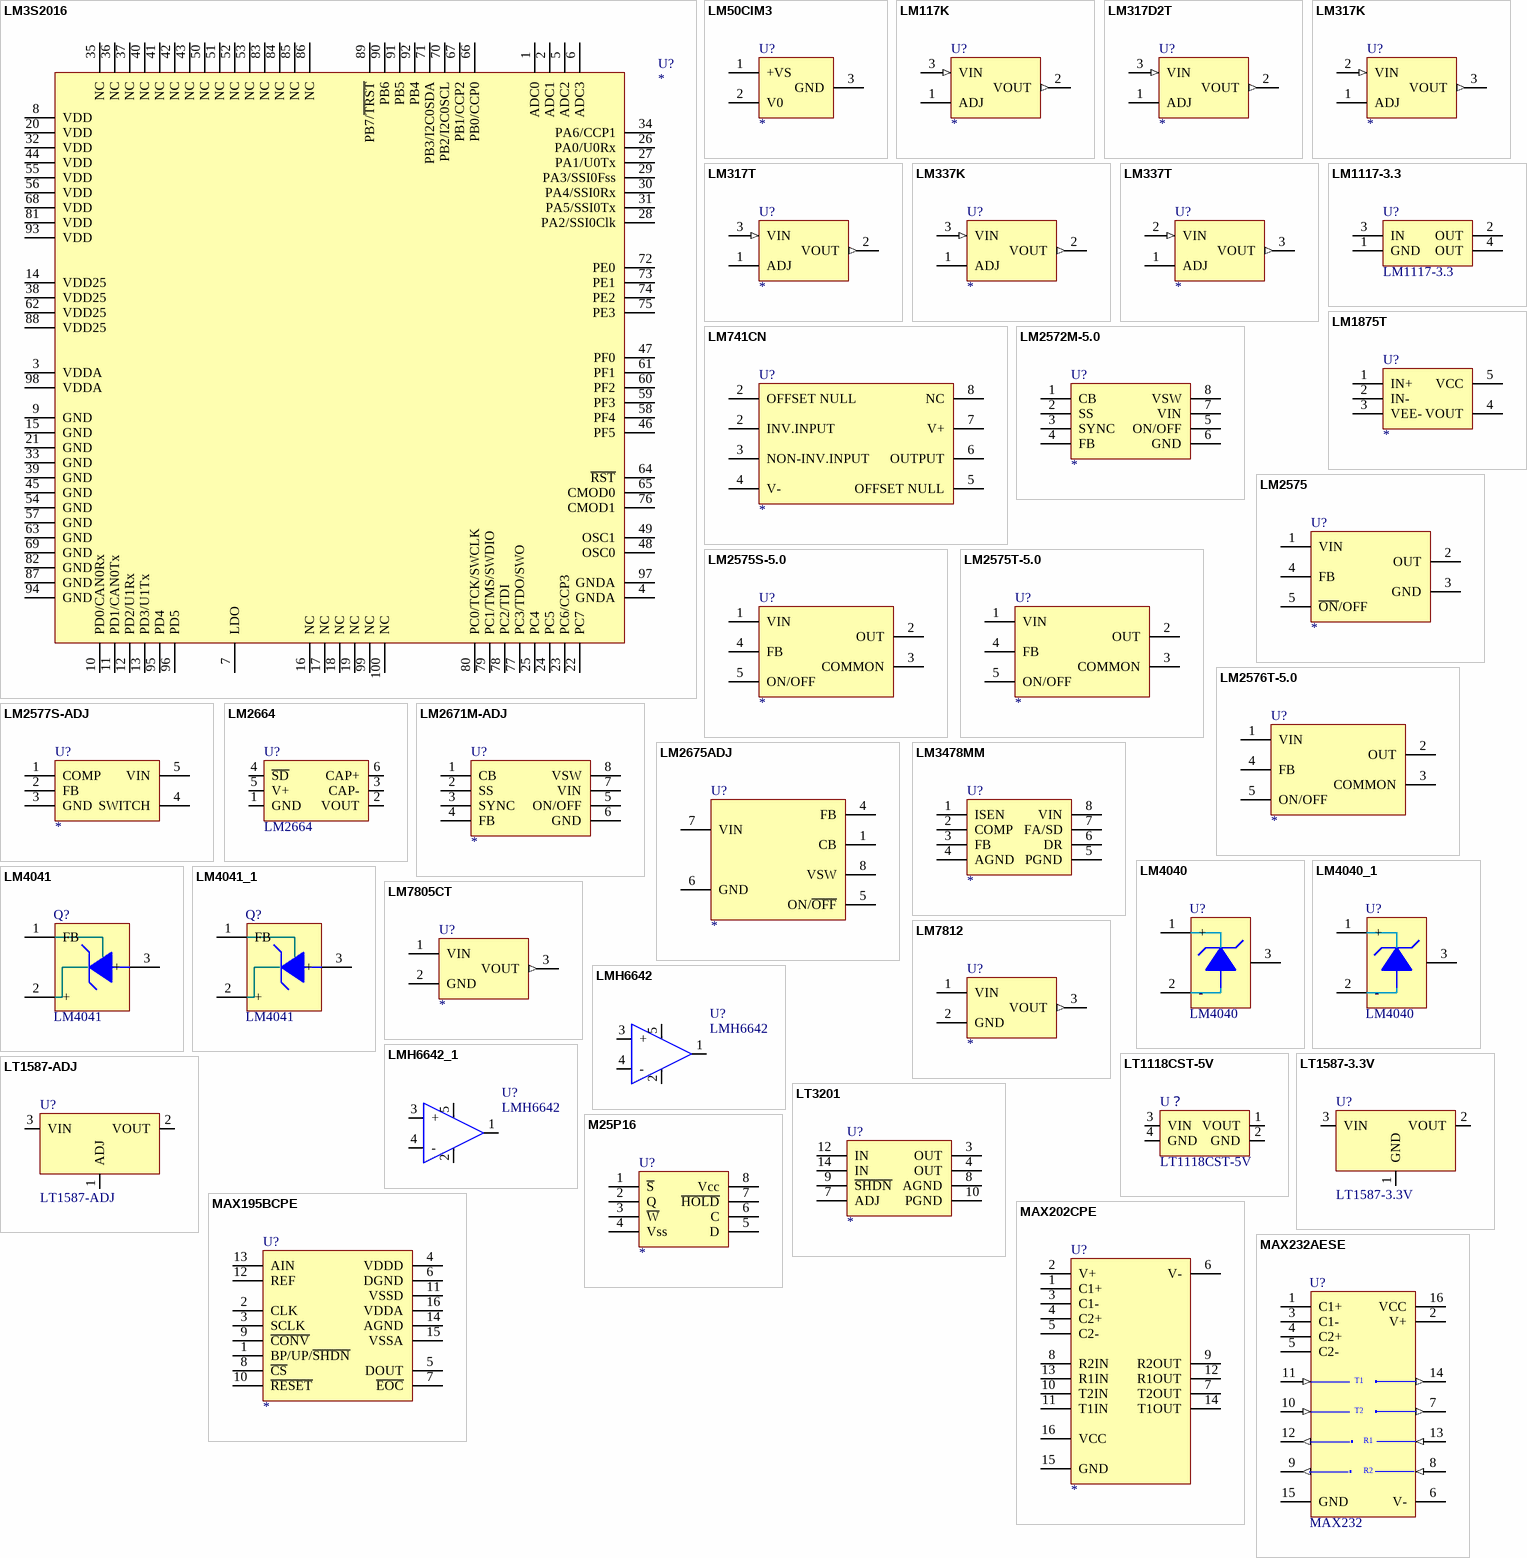
[diagram p4: symbols LM3S2016 to MAX232AESE]

## LM3S2016
designator U?
ARM
footprint LQFP-100
pins: 1 ADC0, 2 ADC1, 3 VDDA, 4 GNDA, 5 ADC2, 6 ADC3, 7 LDO, 8 VDD, 9 GND, 10 PD0/CAN0Rx, 11 PD1/CAN0Tx, 12 PD2/U1Rx, 13 PD3/U1Tx, 14 VDD25, 15 GND, 16 NC, 17 NC, 18 NC, 19 NC, 20 VDD, 21 GND, 22 PC7, 23 PC6/CCP3, 24 PC5, 25 PC4, 26 PA0/U0Rx, 27 PA1/U0Tx, 28 PA2/SSI0Clk, 29 PA3/SSI0Fss, 30 PA4/SSI0Rx, 31 PA5/SSI0Tx, 32 VDD, 33 GND, 34 PA6/CCP1, 35 NC, 36 NC, 37 NC, 38 VDD25, 39 GND, 40 NC, 41 NC, 42 NC, 43 NC, 44 VDD, 45 GND, 46 PF5, 47 PF0, 48 OSC0, 49 OSC1, 50 NC, 51 NC, 52 NC, 53 NC, 54 GND, 55 VDD, 56 VDD, 57 GND, 58 PF4, 59 PF3, 60 PF2, 61 PF1, 62 VDD25, 63 GND, 64 ~{RST}, 65 CMOD0, 66 PB0/CCP0, 67 PB1/CCP2, 68 VDD, 69 GND, 70 PB2/I2C0SCL, 71 PB3/I2C0SDA, 72 PE0, 73 PE1, 74 PE2, 75 PE3, 76 CMOD1, 77 PC3/TDO/SWO, 78 PC2/TDI, 79 PC1/TMS/SWDIO, 80 PC0/TCK/SWCLK, 81 VDD, 82 GND, 83 NC, 84 NC, 85 NC, 86 NC, 87 GND, 88 VDD25, 89 PB7/~{TRST}, 90 PB6, 91 PB5, 92 PB4, 93 VDD, 94 GND, 95 PD4, 96 PD5, 97 GNDA, 98 VDDA, 99 NC, 100 NC

## LM50CIM3
designator U?
CI-LM50CIM3
footprint SOT-23
pins: 1 +VS (power), 2 V0 (power), 3 GND (power)

## LM117K
designator U?
CI-LM117K
footprint TO-3
pins: 1 ADJ, 2 VOUT (out), 3 VIN (in)

## LM317D2T
designator U?
CI-LM317D2T
footprint D2PAK
pins: 1 ADJ, 2 VOUT (out), 3 VIN (in)

## LM317K
designator U?
CI-LM317K
footprint TO-3
pins: 1 ADJ, 2 VIN (in), 3 VOUT (out)

## LM317T
designator U?
CI-LM317T
footprint TO-220
pins: 1 ADJ, 2 VOUT (out), 3 VIN (in)

## LM337K
designator U?
CI-LM337K
footprint TO-3
pins: 1 ADJ, 2 VOUT (out), 3 VIN (in)

## LM337T
designator U?
CI-LM337T
footprint TO-220
pins: 1 ADJ, 2 VIN (in), 3 VOUT (out)

## LM741CN
designator U?
CI-LM741CN
footprint DIP-8N
pins: 2 OFFSET NULL, 2 INV.INPUT, 3 NON-INV.INPUT, 4 V-, 5 OFFSET NULL, 6 OUTPUT, 7 V+, 8 NC

## LM1117-3.3
designator U?
800mA and 1A Low Dropout Positive Regulator 2.85V, 3.3V, 5V, and Adjustable; PackageDocument: revC; Published: 8-Jun-2000; LatestRevisionDate: 17-Jul-2002; LatestRevisionNote: Re-released for DXP Platform.; DatasheetDocument: Sep-1997; PackageReference: ZZ311; Publisher: Altium Limited; ComponentLink1Description: Manufacturer Link; ComponentLink1URL: http://www.ti.com/
footprint lm1117
pins: 1 GND (power), 2 OUT (power), 3 IN (power), 4 OUT (power)

## LM1875T
designator U?
CI-LM1875T
footprint TO-220-5
pins: 1 IN+, 2 IN-, 3 VEE- (power), 4 VOUT, 5 VCC (power)

## LM2572M-5.0
designator U?
CI-LM2572M-5.0
footprint SO-8N
pins: 1 CB, 2 SS, 3 SYNC, 4 FB, 5 ON/OFF, 6 GND (power), 7 VIN, 8 VSW

## LM2575
designator U?
IC-power
footprint TO-263
footprint TO-220-5
pins: 1 VIN, 2 OUT, 3 GND, 4 FB, 5 ~{ON}/OFF

## LM2575S-5.0
designator U?
CI-LM2575S-5.0
footprint TO-263
pins: 1 VIN, 2 OUT, 3 COMMON, 4 FB, 5 ON/OFF

## LM2575T-5.0
designator U?
CI-LM2575T-5.0
footprint TO-220-5
pins: 1 VIN, 2 OUT, 3 COMMON (power), 4 FB, 5 ON/OFF

## LM2576T-5.0
designator U?
CI-LM2576T-5.0
footprint TO-220-5
pins: 1 VIN, 2 OUT, 3 COMMON, 4 FB, 5 ON/OFF

## LM2577S-ADJ
designator U?
CI-LM2577S-ADJ
footprint TO-263
pins: 1 COMP, 2 FB, 3 GND (power), 4 SWITCH, 5 VIN

## LM2664
designator U?
pins: 1 GND, 2 VOUT, 3 CAP-, 4 ~{SD}, 5 V+, 6 CAP+

## LM2671M-ADJ
designator U?
CI-LM2671M-ADJ
footprint SO-8N
pins: 1 CB, 2 SS, 3 SYNC, 4 FB, 5 ON/OFF, 6 GND (power), 7 VIN, 8 VSW

## LM2675ADJ
designator U?
footprint TO-220-5
pins: 1 CB, 4 FB, 5 ON/~{OFF}, 6 GND, 7 VIN, 8 VSW

## LM3478MM
designator U?
CI-LM3478MM
footprint MSO-8
pins: 1 ISEN, 2 COMP, 3 FB, 4 AGND, 5 PGND, 6 DR, 7 FA/SD, 8 VIN

## LM4040
designator U?
Shunt  Voltage  Reference
pins: 1 +, 2 -, 3

## LM4040_1
designator U?, comment LM4040
Shunt  Voltage  Reference
pins: 1 +, 2 -, 3

## LM4041
designator Q?
Shunt  Voltage  Reference
footprint SOT-23 (Footprint not found)
pins: 1 FB, 2 +, 3 +

## LM4041_1
designator Q?, comment LM4041
Shunt  Voltage  Reference
footprint SOT-23 (Footprint not found)
pins: 1 FB, 2 +, 3 +

## LM7805CT
designator U?
CI-LM7805CT
footprint TO-220
pins: 1 VIN (power), 2 GND (power), 3 VOUT (out)

## LM7812
designator U?
CI-LM7812
footprint TO-220
pins: 1 VIN (power), 2 GND (power), 3 VOUT (out)

## LMH6642
designator U?
Amplifier IC
pins: 1 OUT, 2 V-, 3 +, 4 -, 5 V+

## LMH6642_1
designator U?, comment LMH6642
Amplifier IC
pins: 1 OUT, 2 V-, 3 +, 4 -, 5 V+

## LT1118CST-5V
designator U？
pins: 1 VOUT, 2 GND, 3 VIN, 4 GND

## LT1587-3.3V
designator U?
pins: 1 GND, 2 VOUT, 3 VIN

## LT1587-ADJ
designator U?
pins: 1 ADJ, 2 VOUT, 3 VIN

## LT3201
designator U?
pins: 3 OUT, 4 OUT, 7 ADJ, 8 AGND, 9 ~{SHDN}, 10 PGND, 12 IN, 14 IN

## M25P16
designator U?
M25P16
footprint DIP-8N
pins: 1 ~{S}, 2 Q, 3 ~{W}, 4 Vss, 5 D, 6 C, 7 ~{HOLD}, 8 Vcc

## MAX195BCPE
designator U?
CI-MAX195BCPE
footprint DIP-16N
pins: 1 BP/UP/~{SHDN}, 2 CLK, 3 SCLK, 4 VDDD, 5 DOUT, 6 DGND, 7 ~{EOC}, 8 ~{CS}, 9 ~{CONV}, 10 ~{RESET}, 11 VSSD, 12 REF, 13 AIN, 14 AGND, 15 VSSA, 16 VDDA

## MAX202CPE
designator U?
通讯IC
footprint DIP-16N
pins: 1 C1+, 2 V+, 3 C1-, 4 C2+, 5 C2-, 6 V-, 7 T2OUT, 8 R2IN, 9 R2OUT, 10 T2IN, 11 T1IN, 12 R1OUT, 13 R1IN, 14 T1OUT, 15 GND (power), 16 VCC (power)

## MAX232AESE
designator U?, comment MAX232
+5V-Powered, Multichannel RS-232 Driver/Receiver; Published: 16-Jan-2001; LatestRevisionDate: 6-Jun-2005; LatestRevisionNote: Stylized 3D Model Added.; DatasheetDocument: Nov-1997; PackageReference: NSO16; Publisher: Altium Limited; Code_JEDEC: MS-012-AC; Code_IPC: SO16; ComponentLink1Description: Manufacturer Link; ComponentLink1URL: http://www.maxim-ic.com/; ComponentLink2Description: Datasheet; ComponentLink2URL: http://pdfserv.maxim-ic.com/en/ds/MAX220-MAX249.pdf
footprint NSO16 (Small Outline; 16 Leads; Body Width 3.9 mm; Pitch 1.27 mm)
3D model NSO16 (Small Outline; 16 Leads; Body Width 3.9 mm; Pitch 1.27 mm)
pins: 1 C1+, 2 V+ (power), 3 C1-, 4 C2+, 5 C2-, 6 V- (power), 7 T2OUT (out), 8 R2IN (in), 9 R2OUT (out), 10 T2IN (in), 11 T1IN (in), 12 R1OUT (out), 13 R1IN (in), 14 T1OUT (out), 15 GND (power), 16 VCC (power)
text: T1; T2; R1; R2

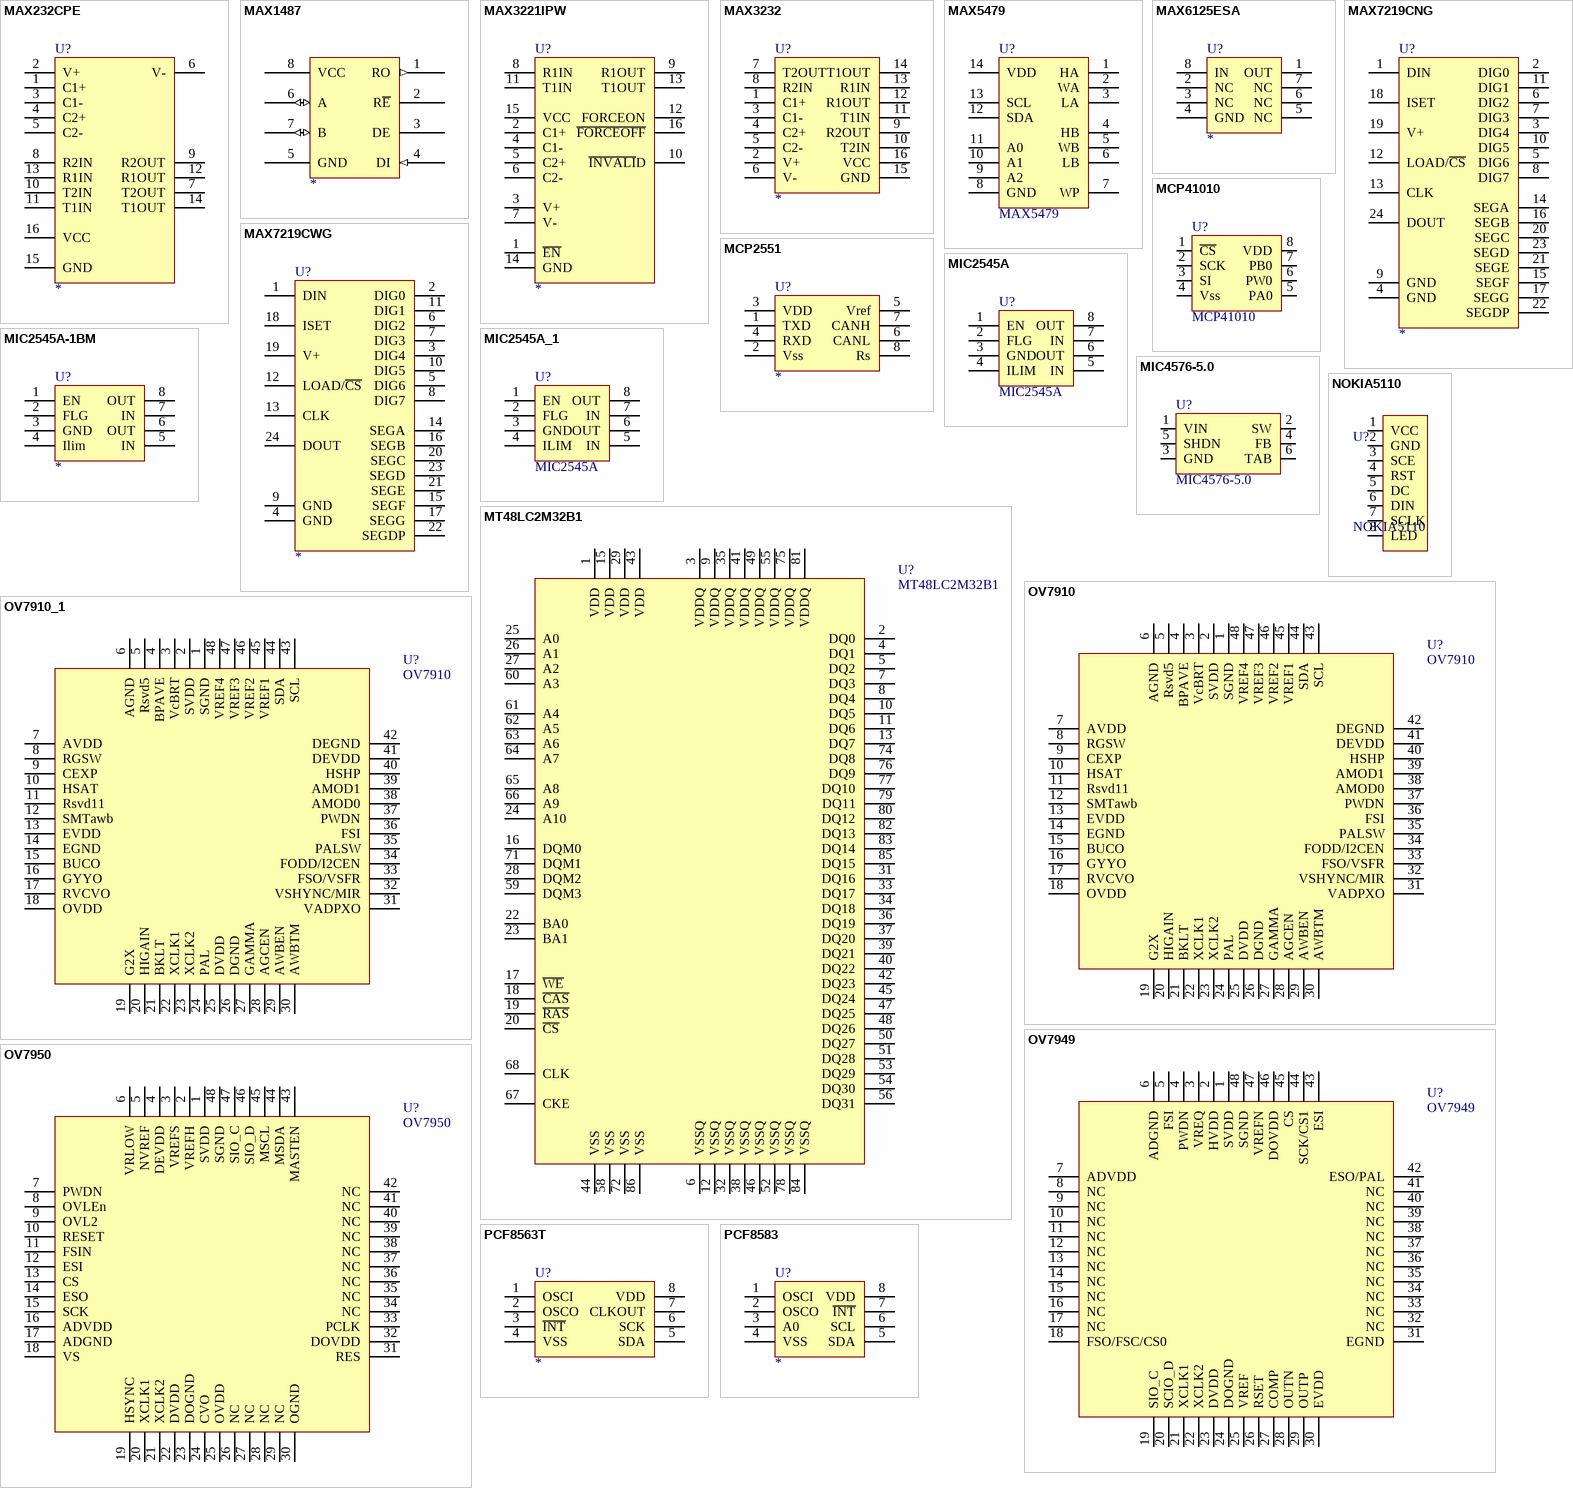
[diagram p5: symbols MAX232CPE to PCF8583]

## MAX232CPE
designator U?
通讯IC
footprint DIP-16N
pins: 1 C1+, 2 V+, 3 C1-, 4 C2+, 5 C2-, 6 V-, 7 T2OUT, 8 R2IN, 9 R2OUT, 10 T2IN, 11 T1IN, 12 R1OUT, 13 R1IN, 14 T1OUT, 15 GND (power), 16 VCC (power)

## MAX1487
designator ?
pins: 1 RO (out), 2 R~{E}, 3 DE, 4 DI (in), 5 GND (power), 6 A (io), 7 B (io), 8 VCC (power)

## MAX3221IPW
designator U?
通讯IC
footprint TSSOP-16
pins: 1 ~{EN}, 2 C1+, 3 V+, 4 C1-, 5 C2+, 6 C2-, 7 V-, 8 R1IN, 9 R1OUT, 10 ~{INVALI}D, 11 T1IN, 12 FORCEON, 13 T1OUT, 14 GND (power), 15 VCC (power), 16 ~{FORCEOFF}

## MAX3232
designator U?
communication  IC
footprint TSSOP16
pins: 1 C1+, 2 V+, 3 C1-, 4 C2+, 5 C2-, 6 V-, 7 T2OUT, 8 R2IN, 9 R2OUT, 10 T2IN, 11 T1IN, 12 R1OUT, 13 R1IN, 14 T1OUT, 15 GND (power), 16 VCC (power)

## MAX5479
designator U?
CI-ADG408BR
footprint TSSOP-14
pins: 1 HA, 2 WA, 3 LA (power), 4 HB, 5 WB, 6 LB, 7 WP, 8 GND, 9 A2, 10 A1, 11 A0, 12 SDA, 13 SCL (power), 14 VDD

## MAX6125ESA
designator U?
CI-MAX6125ESA
footprint SO-8N
pins: 1 OUT, 2 NC, 3 NC, 4 GND (power), 5 NC, 6 NC, 7 NC, 8 IN

## MAX7219CNG
designator U?
CI-MAX7219CNG
footprint DIP-24N
pins: 1 DIN, 2 DIG0, 3 DIG4, 4 GND (power), 5 DIG6, 6 DIG2, 7 DIG3, 8 DIG7, 9 GND (power), 10 DIG5, 11 DIG1, 12 LOAD/~{CS}, 13 CLK, 14 SEGA, 15 SEGF, 16 SEGB, 17 SEGG, 18 ISET, 19 V+ (power), 20 SEGC, 21 SEGE, 22 SEGDP, 23 SEGD, 24 DOUT

## MAX7219CWG
designator U?
CI-MAX7219CWG
footprint SO-24W
pins: 1 DIN, 2 DIG0, 3 DIG4, 4 GND (power), 5 DIG6, 6 DIG2, 7 DIG3, 8 DIG7, 9 GND (power), 10 DIG5, 11 DIG1, 12 LOAD/~{CS}, 13 CLK, 14 SEGA, 15 SEGF, 16 SEGB, 17 SEGG, 18 ISET, 19 V+ (power), 20 SEGC, 21 SEGE, 22 SEGDP, 23 SEGD, 24 DOUT

## MCP2551
designator U?
CAN收发器
footprint SO-8N
footprint DIP-8N
pins: 1 TXD, 2 Vss, 3 VDD, 4 RXD (power), 5 Vref, 6 CANL, 7 CANH, 8 Rs (power)

## MCP41010
designator U?
数字电位器
footprint SO-8N
footprint DIP-8N
pins: 1 ~{CS}, 2 SCK, 3 SI, 4 Vss (power), 5 PA0, 6 PW0, 7 PB0, 8 VDD (power)

## MIC2545A
designator U?
IC; Set Position: 0.5; Published: 8-Jun-2000; LatestRevisionDate: 17-Jul-2002; LatestRevisionNote: Re-released for DXP Platform.; PackageReference: AXIAL-0.6; Publisher: Altium Limited
footprint AXIAL-0.6 (Variable Resistor; 2 Leads)
simulation model VRES (Variable Resistor)
signal-integrity model Res Adj
pins: 1 EN, 2 FLG, 3 GND, 4 ILIM, 5 IN, 6 OUT, 7 IN, 8 OUT

## MIC2545A-1BM
designator U?
CI-MIC2545A-1BM
footprint SO-8N
pins: 1 EN, 2 FLG, 3 GND (power), 4 Ilim, 5 IN, 6 OUT, 7 IN, 8 OUT

## MIC2545A_1
designator U?, comment MIC2545A
IC; Set Position: 0.5; Published: 8-Jun-2000; LatestRevisionDate: 17-Jul-2002; LatestRevisionNote: Re-released for DXP Platform.; PackageReference: AXIAL-0.6; Publisher: Altium Limited
footprint AXIAL-0.6 (Variable Resistor; 2 Leads)
simulation model VRES (Variable Resistor)
signal-integrity model Res Adj
pins: 1 EN, 2 FLG, 3 GND, 4 ILIM, 5 IN, 6 OUT, 7 IN, 8 OUT

## MIC4576-5.0
designator U?
pins: 1 VIN, 2 SW, 3 GND, 4 FB, 5 SHDN, 6 TAB

## MT48LC2M32B1
designator U?
pins: 1 VDD, 2 DQ0, 3 VDDQ, 4 DQ1, 5 DQ2, 6 VSSQ, 7 DQ3, 8 DQ4, 9 VDDQ, 10 DQ5, 11 DQ6, 12 VSSQ, 13 DQ7, 15 VDD, 16 DQM0, 17 ~{WE}, 18 ~{CAS}, 19 ~{RAS}, 20 ~{CS}, 22 BA0, 23 BA1, 24 A10, 25 A0, 26 A1, 27 A2, 28 DQM2, 29 VDD, 31 DQ16, 32 VSSQ, 33 DQ17, 34 DQ18, 35 VDDQ, 36 DQ19, 37 DQ20, 38 VSSQ, 39 DQ21, 40 DQ22, 41 VDDQ, 42 DQ23, 43 VDD, 44 VSS, 45 DQ24, 46 VSSQ, 47 DQ25, 48 DQ26, 49 VDDQ, 50 DQ27, 51 DQ28, 52 VSSQ, 53 DQ29, 54 DQ30, 55 VDDQ, 56 DQ31, 58 VSS, 59 DQM3, 60 A3, 61 A4, 62 A5, 63 A6, 64 A7, 65 A8, 66 A9, 67 CKE, 68 CLK, 71 DQM1, 72 VSS, 74 DQ8, 75 VDDQ, 76 DQ9, 77 DQ10, 78 VSSQ, 79 DQ11, 80 DQ12, 81 VDDQ, 82 DQ13, 83 DQ14, 84 VSSQ, 85 DQ15, 86 VSS

## NOKIA5110
designator U?
footprint SIP8-2.54
pins: 1 VCC, 2 GND, 3 SCE, 4 RST, 5 DC, 6 DIN, 7 SCLK, 8 LED

## OV7910
designator U?
Video  IC
pins: 1 SGND, 2 SVDD, 3 VcBRT, 4 BPAVE, 5 Rsvd5, 6 AGND, 7 AVDD, 8 RGSW, 9 CEXP, 10 HSAT, 11 Rsvd11, 12 SMTawb, 13 EVDD, 14 EGND, 15 BUCO, 16 GYYO, 17 RVCVO, 18 OVDD, 19 G2X, 20 HIGAIN, 21 BKLT, 22 XCLK1, 23 XCLK2, 24 PAL, 25 DVDD, 26 DGND, 27 GAMMA, 28 AGCEN, 29 AWBEN, 30 AWBTM, 31 VADPXO, 32 VSHYNC/MIR, 33 FSO/VSFR, 34 FODD/I2CEN, 35 PALSW, 36 FSI, 37 PWDN, 38 AMOD0, 39 AMOD1, 40 HSHP, 41 DEVDD, 42 DEGND, 43 SCL, 44 SDA, 45 VREF1, 46 VREF2, 47 VREF3, 48 VREF4

## OV7910_1
designator U?, comment OV7910
Video  IC
pins: 1 SGND, 2 SVDD, 3 VcBRT, 4 BPAVE, 5 Rsvd5, 6 AGND, 7 AVDD, 8 RGSW, 9 CEXP, 10 HSAT, 11 Rsvd11, 12 SMTawb, 13 EVDD, 14 EGND, 15 BUCO, 16 GYYO, 17 RVCVO, 18 OVDD, 19 G2X, 20 HIGAIN, 21 BKLT, 22 XCLK1, 23 XCLK2, 24 PAL, 25 DVDD, 26 DGND, 27 GAMMA, 28 AGCEN, 29 AWBEN, 30 AWBTM, 31 VADPXO, 32 VSHYNC/MIR, 33 FSO/VSFR, 34 FODD/I2CEN, 35 PALSW, 36 FSI, 37 PWDN, 38 AMOD0, 39 AMOD1, 40 HSHP, 41 DEVDD, 42 DEGND, 43 SCL, 44 SDA, 45 VREF1, 46 VREF2, 47 VREF3, 48 VREF4

## OV7949
designator U?
Video  IC
pins: 1 SVDD, 2 HVDD, 3 VREQ, 4 PWDN, 5 FSI, 6 ADGND, 7 ADVDD, 8 NC, 9 NC, 10 NC, 11 NC, 12 NC, 13 NC, 14 NC, 15 NC, 16 NC, 17 NC, 18 FSO/FSC/CS0, 19 SIO_C, 20 SCIO_D, 21 XCLK1, 22 XCLK2, 23 DVDD, 24 DOGND, 25 VREF, 26 RSET, 27 COMP, 28 OUTN, 29 OUTP, 30 EVDD, 31 EGND, 32 NC, 33 NC, 34 NC, 35 NC, 36 NC, 37 NC, 38 NC, 39 NC, 40 NC, 41 NC, 42 ESO/PAL, 43 ESI, 44 SCK/CS1, 45 CS, 46 DOVDD, 47 VREFN, 48 SGND

## OV7950
designator U?
Video  IC
pins: 1 SVDD, 2 VREFH, 3 VREFS, 4 DEVDD, 5 NVREF, 6 VRLOW, 7 PWDN, 8 OVLEn, 9 OVL2, 10 RESET, 11 FSIN, 12 ESI, 13 CS, 14 ESO, 15 SCK, 16 ADVDD, 17 ADGND, 18 VS, 19 HSYNC, 20 XCLK1, 21 XCLK2, 22 DVDD, 23 DOGND, 24 CVO, 25 OVDD, 26 NC, 27 NC, 28 NC, 29 NC, 30 OGND, 31 RES, 32 DOVDD, 33 PCLK, 34 NC, 35 NC, 36 NC, 37 NC, 38 NC, 39 NC, 40 NC, 41 NC, 42 NC, 43 MASTEN, 44 MSDA, 45 MSCL, 46 SIO_D, 47 SIO_C, 48 SGND

## PCF8563T
designator U?
时钟IC
footprint SO-8N
pins: 1 OSCI, 2 OSCO, 3 ~{INT}, 4 VSS (power), 5 SDA, 6 SCK, 7 CLKOUT, 8 VDD (power)

## PCF8583
designator U?
pins: 1 OSCI, 2 OSCO, 3 A0, 4 VSS (power), 5 SDA, 6 SCL, 7 ~{INT}, 8 VDD (power)

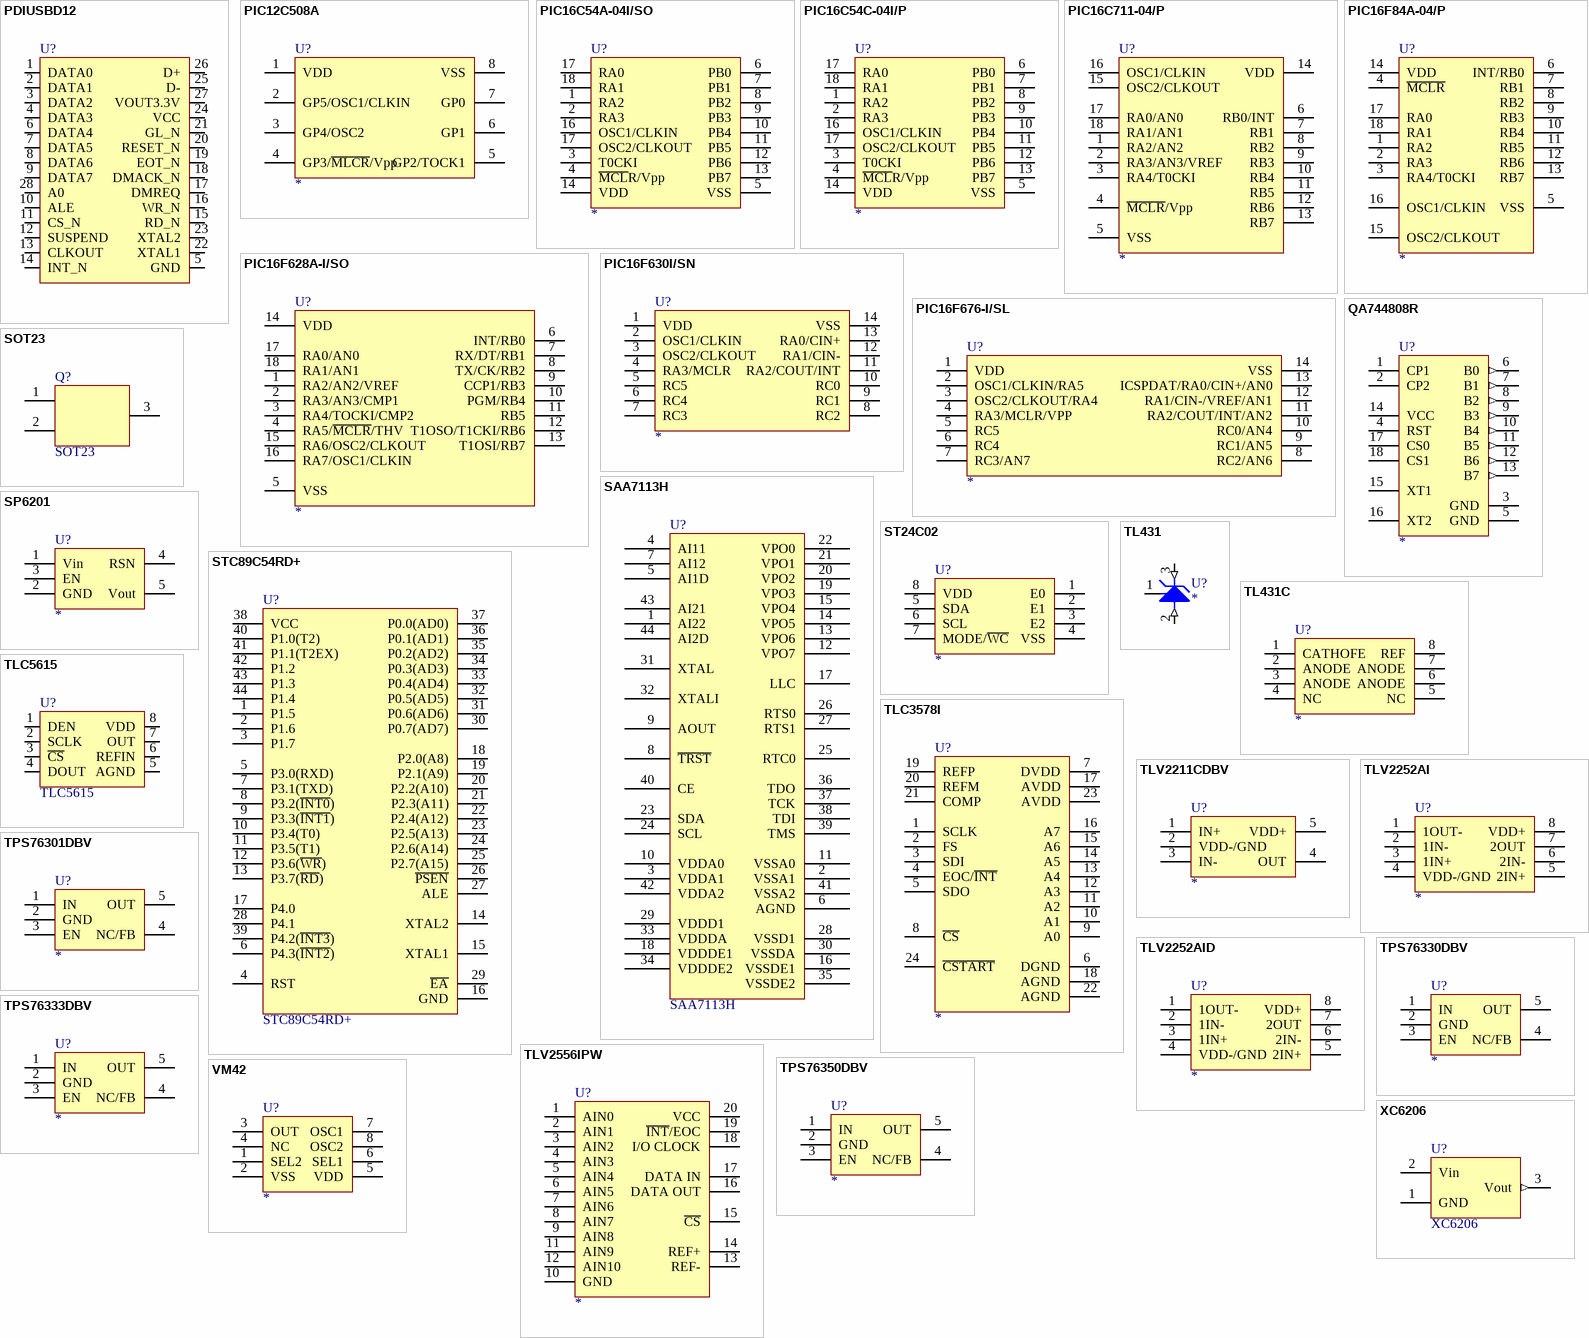
[diagram p6: symbols PDIUSBD12 to XC6206]

## PDIUSBD12
designator U?
footprint TSSOP-28
footprint PDIUSBD12
pins: 1 DATA0, 2 DATA1, 3 DATA2, 4 DATA3, 5 GND, 6 DATA4, 7 DATA5, 8 DATA6, 9 DATA7, 10 ALE, 11 CS_N, 12 SUSPEND, 13 CLKOUT, 14 INT_N, 15 RD_N, 16 WR_N, 17 DMREQ, 18 DMACK_N, 19 EOT_N, 20 RESET_N, 21 GL_N, 22 XTAL1, 23 XTAL2, 24 VCC, 25 D-, 26 D+, 27 VOUT3.3V, 28 A0

## PIC12C508A
designator U?
CI-PIC12C508A-04/SM
footprint SO-8M
pins: 1 VDD, 2 GP5/OSC1/CLKIN, 3 GP4/OSC2, 4 GP3/~{MLCR}/Vpp, 5 GP2/TOCK1, 6 GP1, 7 GP0, 8 VSS

## PIC16C54A-04I/SO
designator U?
CI-PIC16C54A-04I/SO
footprint SO-18W
pins: 1 RA2, 2 RA3, 3 T0CKI, 4 ~{MCL}R/Vpp, 5 VSS (power), 6 PB0, 7 PB1, 8 PB2, 9 PB3, 10 PB4, 11 PB5, 12 PB6, 13 PB7, 14 VDD (power), 16 OSC1/CLKIN, 17 RA0, 17 OSC2/CLKOUT, 18 RA1

## PIC16C54C-04I/P
designator U?
CI-PIC16C54C-04I/P
footprint DIP-18N
pins: 1 RA2, 2 RA3, 3 T0CKI, 4 ~{MCL}R/Vpp, 5 VSS (power), 6 PB0, 7 PB1, 8 PB2, 9 PB3, 10 PB4, 11 PB5, 12 PB6, 13 PB7, 14 VDD (power), 16 OSC1/CLKIN, 17 RA0, 17 OSC2/CLKOUT, 18 RA1

## PIC16C711-04/P
designator U?
CI-PIC16C711-04/P
footprint DIP-18N
pins: 1 RA2/AN2, 2 RA3/AN3/VREF, 3 RA4/T0CKI, 4 ~{MCLR}/Vpp, 5 VSS, 6 RB0/INT, 7 RB1, 8 RB2, 9 RB3, 10 RB4, 11 RB5, 12 RB6, 13 RB7, 14 VDD (power), 15 OSC2/CLKOUT, 16 OSC1/CLKIN, 17 RA0/AN0, 18 RA1/AN1

## PIC16F84A-04/P
designator U?
CI-PIC16F84A-04/P
footprint DIP-18N
pins: 1 RA2, 2 RA3, 3 RA4/T0CKI, 4 ~{MCLR}, 5 VSS (power), 6 INT/RB0, 7 RB1, 8 RB2, 9 RB3, 10 RB4, 11 RB5, 12 RB6, 13 RB7, 14 VDD (power), 15 OSC2/CLKOUT, 16 OSC1/CLKIN, 17 RA0, 18 RA1

## PIC16F628A-I/SO
designator U?
CI-PIC16F628A-I/SO
footprint SO-18W
pins: 1 RA2/AN2/VREF, 2 RA3/AN3/CMP1, 3 RA4/TOCKI/CMP2, 4 RA5/~{MCLR}/THV, 5 VSS (power), 6 INT/RB0, 7 RX/DT/RB1, 8 TX/CK/RB2, 9 CCP1/RB3, 10 PGM/RB4, 11 RB5, 12 T1OSO/T1CKI/RB6, 13 T1OSI/RB7, 14 VDD (power), 15 RA6/OSC2/CLKOUT (power), 16 RA7/OSC1/CLKIN (power), 17 RA0/AN0, 18 RA1/AN1

## PIC16F630I/SN
designator U?
CI-PIC16F630-I/SN
footprint SO-14N
pins: 1 VDD, 2 OSC1/CLKIN, 3 OSC2/CLKOUT, 4 RA3/MCLR, 5 RC5, 6 RC4, 7 RC3, 8 RC2, 9 RC1, 10 RC0, 11 RA2/COUT/INT, 12 RA1/CIN-, 13 RA0/CIN+, 14 VSS

## PIC16F676-I/SL
designator U?
CI-PIC16F676-I/SL
footprint SO-14N
pins: 1 VDD, 2 OSC1/CLKIN/RA5, 3 OSC2/CLKOUT/RA4, 4 RA3/MCLR/VPP, 5 RC5, 6 RC4, 7 RC3/AN7, 8 RC2/AN6, 9 RC1/AN5, 10 RC0/AN4, 11 RA2/COUT/INT/AN2, 12 RA1/CIN-/VREF/AN1, 13 ICSPDAT/RA0/CIN+/AN0, 14 VSS

## QA744808R
designator U?
CI-QA744808R
footprint DIP-18N
pins: 1 CP1, 2 CP2, 3 GND (power), 4 RST, 5 GND (power), 6 B0 (out), 7 B1 (out), 8 B2 (out), 9 B3 (out), 10 B4 (out), 11 B5 (out), 12 B6 (out), 13 B7 (out), 14 VCC (power), 15 XT1, 16 XT2, 17 CS0, 18 CS1

## SAA7113H
designator U?
footprint QFP44
pins: 1 AI22, 2 VSSA1, 3 VDDA1, 4 AI11, 5 AI1D, 6 AGND, 7 AI12, 8 ~{TRST}, 9 AOUT, 10 VDDA0, 11 VSSA0, 12 VPO7, 13 VPO6, 14 VPO5, 15 VPO4, 16 VSSDE1, 17 LLC, 18 VDDDE1, 19 VPO3, 20 VPO2, 21 VPO1, 22 VPO0, 23 SDA, 24 SCL, 25 RTC0, 26 RTS0, 27 RTS1, 28 VSSD1, 29 VDDD1, 30 VSSDA, 31 XTAL, 32 XTALI, 33 VDDDA, 34 VDDDE2, 35 VSSDE2, 36 TDO, 37 TCK, 38 TDI, 39 TMS, 40 CE, 41 VSSA2, 42 VDDA2, 43 AI21, 44 AI2D
2 alternate drawings of the same symbol

## SOT23
designator Q?
pins: 1, 2, 3

## SP6201
designator U?
CMOS LDO
footprint SOT-25
pins: 1 Vin, 2 GND (power), 3 EN, 4 RSN, 5 Vout

## ST24C02
designator U?
pins: 1 E0, 2 E1, 3 E2, 4 VSS, 5 SDA, 6 SCL, 7 MODE/~{WC}, 8 VDD

## STC89C54RD+
designator U?
Atmel Microcontroller - Library created by carel..  <www.mpfreezone.com>
footprint DIP-40
pins: 1 P1.5, 2 P1.6, 3 P1.7, 4 RST, 5 P3.0(RXD), 6 P4.3(~{INT2}), 7 P3.1(TXD), 8 P3.2(~{INT0}), 9 P3.3(~{INT1}), 10 P3.4(T0), 11 P3.5(T1), 12 P3.6(~{WR}), 13 P3.7(~{RD}), 14 XTAL2, 15 XTAL1, 16 GND, 17 P4.0, 18 P2.0(A8), 19 P2.1(A9), 20 P2.2(A10) (power), 21 P2.3(A11), 22 P2.4(A12), 23 P2.5(A13), 24 P2.6(A14), 25 P2.7(A15), 26 ~{PSEN}, 27 ALE, 28 P4.1, 29 ~{EA}, 30 P0.7(AD7), 31 P0.6(AD6), 32 P0.5(AD5), 33 P0.4(AD4), 34 P0.3(AD3), 35 P0.2(AD2), 36 P0.1(AD1), 37 P0.0(AD0), 38 VCC, 39 P4.2(~{INT3}), 40 P1.0(T2) (power), 41 P1.1(T2EX), 42 P1.2, 43 P1.3, 44 P1.4

## TL431
designator U?
IC
footprint SO-8N
pins: 1 R, 2 A (in), 3 K (in)

## TL431C
designator U?
CI-TL431C
footprint SO-8N
pins: 1 CATHOFE, 2 ANODE, 3 ANODE, 4 NC, 5 NC, 6 ANODE, 7 ANODE, 8 REF

## TLC3578I
designator U?
CI-TLC3578I
footprint SO-24W
pins: 1 SCLK, 2 FS, 3 SDI, 4 EOC/~{INT}, 5 SDO, 6 DGND, 7 DVDD, 8 ~{CS}, 9 A0, 10 A1, 11 A2, 12 A3, 13 A4, 14 A5, 15 A6, 16 A7, 17 AVDD, 18 AGND, 19 REFP, 20 REFM, 21 COMP, 22 AGND, 23 AVDD, 24 ~{CSTART}

## TLC5615
designator U?
footprint DIP-8N
pins: 1 DEN, 2 SCLK, 3 ~{CS}, 4 DOUT (power), 5 AGND, 6 REFIN, 7 OUT (power), 8 VDD

## TLV2211CDBV
designator U?
CI-TLV2211CDBV
footprint SOT-25
pins: 1 IN+, 2 VDD-/GND (power), 3 IN-, 4 OUT, 5 VDD+

## TLV2252AI
designator U?
CI-TLV2252AI
footprint DIP-8N
pins: 1 1OUT-, 2 1IN-, 3 1IN+, 4 VDD-/GND (power), 5 2IN+, 6 2IN-, 7 2OUT, 8 VDD+

## TLV2252AID
designator U?
CI-TLV2252AID
footprint SO-8N
pins: 1 1OUT-, 2 1IN-, 3 1IN+, 4 VDD-/GND (power), 5 2IN+, 6 2IN-, 7 2OUT, 8 VDD+

## TLV2556IPW
designator U?
CI-TLV2556IPW
footprint TSSOP-20
pins: 1 AIN0, 2 AIN1, 3 AIN2, 4 AIN3, 5 AIN4, 6 AIN5, 7 AIN6, 8 AIN7, 9 AIN8, 10 GND (power), 11 AIN9, 12 AIN10, 13 REF-, 14 REF+, 15 ~{CS}, 16 DATA OUT, 17 DATA IN, 18 I/O CLOCK, 19 ~{INT}/EOC (power), 20 VCC (power)

## TPS76301DBV
designator U?
CI-TPS76301DBV
footprint SOT-25
pins: 1 IN, 2 GND (power), 3 EN, 4 NC/FB, 5 OUT

## TPS76330DBV
designator U?
CI-TPS76330DBV
footprint SOT-25
pins: 1 IN, 2 GND (power), 3 EN, 4 NC/FB, 5 OUT

## TPS76333DBV
designator U?
CI-TPS76333DBV
footprint SOT-25
pins: 1 IN, 2 GND (power), 3 EN, 4 NC/FB, 5 OUT

## TPS76350DBV
designator U?
CI-TPS76350DBV
footprint SOT-25
pins: 1 IN, 2 GND (power), 3 EN, 4 NC/FB, 5 OUT

## VM42
designator U?
IC
footprint DIP-8N
pins: 1 SEL2, 2 VSS, 3 OUT, 4 NC, 5 VDD, 6 SEL1, 7 OSC1, 8 OSC2

## XC6206
designator U?
3.3V
footprint TO-92
pins: 1 GND (power), 2 Vin (power), 3 Vout (out)